# Altium integrated library Xilinx Virtex-E.IntLib: 288 symbols (part 15 of 73)
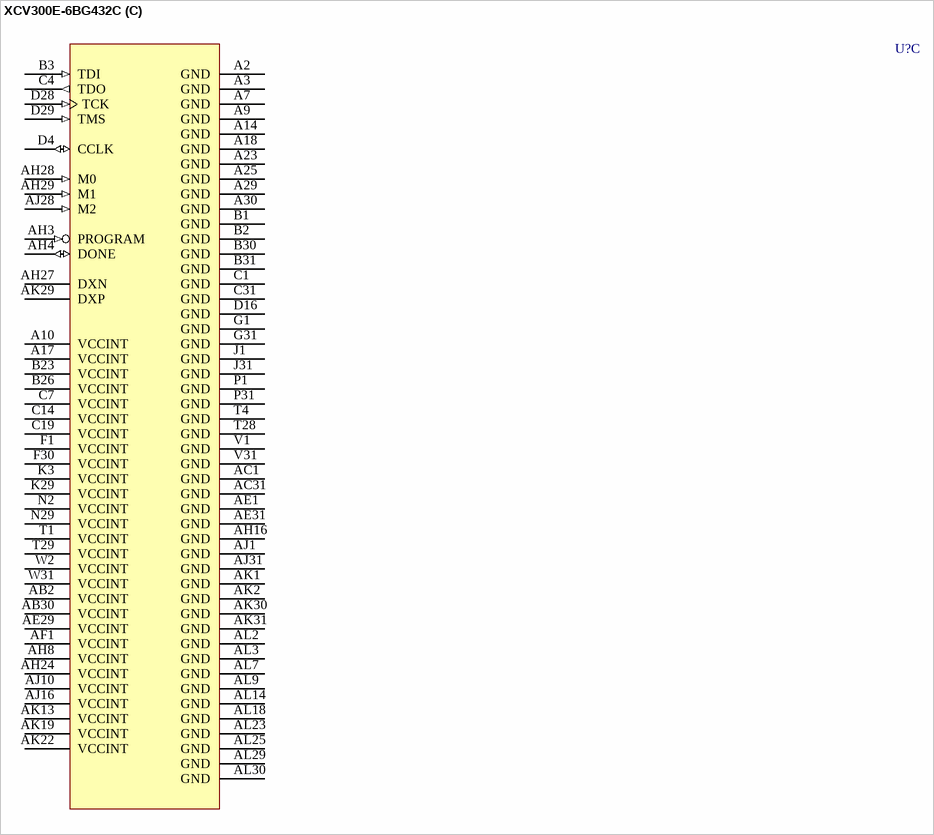
[diagram p407: symbol XCV300E-6BG432C]

## XCV300E-6BG432C
designator U?
Virtex-E 1.8V FPGA, 432-Ball BGA, Commercial Grade; PackageDocument: ver1.1, Apr-2001; Note: Solder pads are defined by the copper, i.e. non-soldermask defined (NSMD); Published: 19-Sep-2001; LatestRevisionDate: 17-Jul-2002; LatestRevisionNote: Re-released for DXP Platform.; DatasheetDocument: Mar-2003; PackageReference: BG432; Publisher: Altium Limited
footprint BG432 (432-Ball Metal Ball Grid Array (BG432))
3D model XCV300E-BG432 (432-Ball Metal Ball Grid Array (BG432))
signal-integrity model XCV300E_BG432 (Virtex-E)
part A pins: A1 VCCO (power), A4 IO_L32N_Y (io), A5 IO_L30N_YY (io), A6 IO_L28P_YY (io), A8 IO_L26N_Y (io), A11 VCCO (power), A12 IO (io), A13 IO_VREF_L19P_YY (io), A15 IO_L17N_Y (io), A16 GCK2 (in), A31 VCCO (power), AA1 VCCO (power), AA2 IO (io), AA3 IO_L58P_YY (io), AA4 VCCO (power), AB1 IO_D5_L58N_YY (io), AB3 IO_D6_L59P_YY (io), AB4 IO_VREF_L59N_YY (io), AC2 IO (io), AC3 IO_L60N_Y (io), AC4 IO_L61P_Y (io), AD1 IO_L60P_Y (io), AD2 IO_L61N_Y (io), AD3 IO_L62P_YY (io), AD4 IO_VREF_L62N_YY (io), AE2 IO (io), AE3 IO_L63N_Y (io), AE4 IO_L64P (io), AF2 IO_L63P_Y (io), AF3 IO_VREF_L65N_Y (io), AF4 IO_L66P_Y (io), AG1 IO_L64N (io), AG2 IO_L65P_Y (io), AG3 IO_L67N (io), AG4 IO_D7_L68P_YY (io), AH1 IO_L66N_Y (io), AH2 IO_L67P (io), AH17 IO_L88P_Y (io), AH18 IO_L90P_YY (io), AH19 IO_L91N_YY (io), AH20 IO (io), AH21 VCCO (power), AH22 IO_L95P_Y (io), AH23 IO_L96N_Y (io), AH25 IO_L99P_Y (io), AH26 IO_L101P_YY (io), AJ2 IO_INIT_L68N_YY (io), AJ3 VCCO (power), AJ17 IO_L87N_Y (io), AJ18 IO_VREF_L89N_YY (io), AJ19 IO (io), AJ20 IO_L92P_YY (io), AJ21 IO_L93P_YY (io), AJ22 IO_L94P_YY (io), AJ23 IO (io), AJ24 IO (io), AJ25 IO_VREF_L97N_YY (io), AJ26 IO_L100P_YY (io), AJ27 IO_L102P_Y (io), AJ29 VCCO (power), AK16 GCK1 (in), AK17 IO_L87P_Y (io), AK18 IO_L88N_Y (io), AK20 IO_L91P_YY (io), AK21 IO_L92N_YY (io), AK23 IO_VREF_L94N_YY (io), AK24 IO_L96P_Y (io), AK25 IO_L97P_YY (io), AK26 IO_L98N_YY (io), AK27 IO_VREF_L100N_YY (io), AK28 IO_L102N_Y (io), AL17 IO_LVDS_DLL_L86N (io), AL19 IO_L89P_YY (io), AL20 IO_L90N_YY (io), AL21 VCCO (power), AL22 IO_L93N_YY (io), AL24 IO_L95N_Y (io), AL26 IO_L98P_YY (io), AL27 IO_L99N_Y (io), AL28 IO_L101N_YY (io), B4 IO_WRITE_L33N_YY (io), B5 IO_L31N_YY (io), B6 IO_L29N_Y (io), B7 IO_VREF_L27P_YY (io), B8 IO_L26P_Y (io), B9 IO (io), B10 IO_L24N_YY (io), B11 IO (io), B12 IO_L21P_YY (io), B13 IO_L20N_YY (io), B14 IO_L19N_YY (io), B15 IO_L17P_Y (io), B16 IO_LVDS_DLL_L16P (io), C5 IO_L32P_Y (io), C6 IO_VREF_L30P_YY (io), C8 IO_L27N_YY (io), C9 IO_L25N_Y (io), C10 IO_VREF_L24P_YY (io), C11 IO_L23P_YY (io), C12 IO_L22P_YY (io), C13 IO_L21N_YY (io), C15 IO_L18N_Y (io), C16 IO (io), C30 IO (io), D5 IO_CS_L33P_YY (io), D6 IO_L31P_YY (io), D7 IO_L29P_Y (io), D8 IO_L28N_YY (io), D9 IO (io), D10 IO_L25P_Y (io), D11 VCCO (power), D12 IO_L23N_YY (io), D13 IO_L22N_YY (io), D14 IO_L20P_YY (io), D15 IO_L18P_Y (io), D30 IO_L135P_Y (io), D31 IO_L135N_Y (io), E28 IO_L136P (io), E29 IO_L136N (io), E30 IO_L133P (io), E31 IO_L133N (io), F28 IO_VREF_L134P_Y (io), F29 IO_L134N_Y (io), F31 IO_VREF_L131P_YY (io), G28 IO_L132P_Y (io), G29 IO_L132N_Y (io), G30 IO_L130P_Y (io), H28 IO_L131N_YY (io), H29 IO (io), H30 IO_L130N_Y (io), H31 IO (io), J28 IO_L129P_Y (io), J29 IO_L129N_Y (io), J30 IO_VREF_L128P_YY (io), K28 IO_L128N_YY (io), K30 IO_L127P_YY (io), K31 IO_L127N_YY (io), L28 VCCO (power), L29 IO (io), L30 IO_L126P_Y (io), L31 VCCO (power), M28 IO_L125P_Y (io), M29 IO_L125N_Y (io), M30 IO_L126N_Y (io), M31 IO (io), N28 IO_L124N_Y (io), N30 IO_VREF_L123P_YY (io), N31 IO_L124P_Y (io), P28 IO_L122P_Y (io), P29 IO_L122N_Y (io), P30 IO_L123N_YY (io), R28 IO (io), R29 IO_L120P_YY (io), R30 IO_L121N_Y (io), R31 IO_L121P_Y (io), T2 IO (io), T31 IO_L120N_YY (io), U1 IO_L53P_Y (io), U2 IO_L52N_Y (io), U3 IO (io), U4 IO_L52P_Y (io), V2 IO_VREF_L54N_YY (io), V3 IO_L53N_Y (io), V4 IO_D4_L54P_YY (io), W1 IO (io), W3 IO_L55P_Y (io), W4 IO_L55N_Y (io), Y1 IO_L56P_Y (io), Y2 IO_L57N_Y (io), Y3 IO_L56N_Y (io), Y4 IO_L57P_Y (io)
part B pins: A19 IO_L13P_YY (io), A20 IO_L12N_YY (io), A21 VCCO (power), A22 IO (io), A24 IO_L8P_YY (io), A26 IO (io), A27 IO_L4P_YY (io), A28 IO_L2P_YY (io), AA28 VCCO (power), AA29 IO_L113P_YY (io), AA30 IO (io), AA31 VCCO (power), AB28 IO_VREF_L112N_YY (io), AB29 IO_L112P_YY (io), AB31 IO_L113N_YY (io), AC28 IO_L111N_Y (io), AC29 IO_L111P_Y (io), AC30 IO (io), AD28 IO_L109P_YY (io), AD29 IO (io), AD30 IO_L110N_Y (io), AD31 IO_L110P_Y (io), AE28 IO_L108N_Y (io), AE30 IO_VREF_L109N_YY (io), AF28 IO_VREF_L106N_Y (io), AF29 IO_L107N (io), AF30 IO_L107P (io), AF31 IO_L108P_Y (io), AG28 IO_L104N (io), AG29 IO_L105N_Y (io), AG30 IO_L105P_Y (io), AG31 IO_L106P_Y (io), AH5 IO_L70P_Y (io), AH6 IO_L71N_YY (io), AH7 IO_L73N_Y (io), AH9 IO_L76P_Y (io), AH10 IO (io), AH11 VCCO (power), AH12 IO_L80P_YY (io), AH13 IO_L82P_YY (io), AH14 IO_L84P_Y (io), AH15 IO_LVDS_DLL_L86P (io), AH30 IO_L103P_YY (io), AH31 IO_L104P (io), AJ4 IO_L69P_YY (io), AJ5 IO_L71P_YY (io), AJ6 IO_L73P_Y (io), AJ7 IO_VREF_L75P_YY (io), AJ8 IO_L76N_Y (io), AJ9 IO_L77N_Y (io), AJ11 IO (io), AJ12 IO_L81P_YY (io), AJ13 IO_L82N_YY (io), AJ14 IO_L84N_Y (io), AJ15 IO_L85N_Y (io), AJ30 IO_L103N_YY (io), AK3 IO_L69N_YY (io), AK4 IO_L70N_Y (io), AK5 IO_L72N_YY (io), AK6 IO_L74N_YY (io), AK7 IO (io), AK8 IO_L77P_Y (io), AK9 IO_L78N_YY (io), AK10 IO_L79P_YY (io), AK11 IO_L80N_YY (io), AK12 IO_L81N_YY (io), AK14 IO_L83N_YY (io), AK15 IO_L85P_Y (io), AL1 VCCO (power), AL4 IO_VREF_L72P_YY (io), AL5 IO_L74P_YY (io), AL6 IO_L75N_YY (io), AL8 IO_VREF_L78P_YY (io), AL10 IO_L79N_YY (io), AL11 VCCO (power), AL12 IO (io), AL13 IO_VREF_L83P_YY (io), AL15 IO (io), AL16 GCK0 (in), AL31 VCCO (power), B17 IO_L15P_Y (io), B18 IO_L14N_Y (io), B19 IO_VREF_L13N_YY (io), B20 IO (io), B21 IO_L11N_YY (io), B22 IO_L9P_YY (io), B24 IO_L7P_Y (io), B25 IO_L6N_Y (io), B27 IO_L3N_Y (io), B28 IO_L1N_YY (io), B29 IO_L0N_Y (io), C2 IO_DIN_D0_L34N_YY (io), C3 VCCO (power), C17 IO_LVDS_DLL_L16N (io), C18 IO_L15N_Y (io), C20 IO_L11P_YY (io), C21 IO_L10N_YY (io), C22 IO_L9N_YY (io), C23 IO (io), C24 IO_L7N_Y (io), C25 IO_L5P_YY (io), C26 IO_L3P_Y (io), C27 IO_L1P_YY (io), C28 IO (io), C29 VCCO (power), D1 IO_L36P_Y (io), D2 IO_L35P (io), D3 IO_DOUT_BUSY_L34P_YY (io), D17 GCK3 (in), D18 IO_L14P_Y (io), D19 IO_L12P_YY (io), D20 IO_L10P_YY (io), D21 VCCO (power), D22 IO_VREF_L8N_YY (io), D23 IO_L6P_Y (io), D24 IO_VREF_L5N_YY (io), D25 IO_L4N_YY (io), D26 IO_VREF_L2N_YY (io), D27 IO_L0P_Y (io), E1 IO_L38P (io), E2 IO_VREF_L37P_Y (io), E3 IO_L36N_Y (io), E4 IO_L35N (io), F2 IO_L39P_Y (io), F3 IO_L38N (io), F4 IO_L37N_Y (io), G2 IO_L40N_YY (io), G3 IO_VREF_L40P_YY (io), G4 IO_L39N_Y (io), H1 IO_L42P_Y (io), H2 IO_L41N_Y (io), H3 IO_L41P_Y (io), H4 IO (io), J2 IO_VREF_L43P_YY (io), J3 IO (io), J4 IO_L42N_Y (io), K1 IO_L44N_YY (io), K2 IO_D2_L44P_YY (io), K4 IO_D1_L43N_YY (io), L1 VCCO (power), L2 IO_L45P_Y (io), L3 IO (io), L4 VCCO (power), M1 IO (io), M2 IO_L46N_Y (io), M3 IO_L46P_Y (io), M4 IO_L45N_Y (io), N1 IO_VREF_L48P_YY (io), N3 IO_L47N_Y (io), N4 IO_L47P_Y (io), P2 IO_L49N_Y (io), P3 IO_L49P_Y (io), P4 IO_D3_L48N_YY (io), R1 IO_L51P_YY (io), R2 IO (io), R3 IO_L50P_Y (io), R4 IO_L50N_Y (io), T3 IO_L51N_YY (io), T30 IO (io), U28 IO_L119N_Y (io), U29 IO_L118P_Y (io), U30 IO_L119P_Y (io), U31 IO (io), V28 IO_VREF_L117N_YY (io), V29 IO_L117P_YY (io), V30 IO_L118N_Y (io), W28 IO (io), W29 IO_L116N_Y (io), W30 IO_L116P_Y (io), Y28 IO_L114N_Y (io), Y29 IO_L114P_Y (io), Y30 IO_L115N_Y (io), Y31 IO_L115P_Y (io)
part C pins: A2 GND (power), A3 GND (power), A7 GND (power), A9 GND (power), A10 VCCINT (power), A14 GND (power), A17 VCCINT (power), A18 GND (power), A23 GND (power), A25 GND (power), A29 GND (power), A30 GND (power), AB2 VCCINT (power), AB30 VCCINT (power), AC1 GND (power), AC31 GND (power), AE1 GND (power), AE29 VCCINT (power), AE31 GND (power), AF1 VCCINT (power), AH3 PROGRAM (in), AH4 DONE (io), AH8 VCCINT (power), AH16 GND (power), AH24 VCCINT (power), AH27 DXN, AH28 M0 (in), AH29 M1 (in), AJ1 GND (power), AJ10 VCCINT (power), AJ16 VCCINT (power), AJ28 M2 (in), AJ31 GND (power), AK1 GND (power), AK2 GND (power), AK13 VCCINT (power), AK19 VCCINT (power), AK22 VCCINT (power), AK29 DXP, AK30 GND (power), AK31 GND (power), AL2 GND (power), AL3 GND (power), AL7 GND (power), AL9 GND (power), AL14 GND (power), AL18 GND (power), AL23 GND (power), AL25 GND (power), AL29 GND (power), AL30 GND (power), B1 GND (power), B2 GND (power), B3 TDI (in), B23 VCCINT (power), B26 VCCINT (power), B30 GND (power), B31 GND (power), C1 GND (power), C4 TDO (out), C7 VCCINT (power), C14 VCCINT (power), C19 VCCINT (power), C31 GND (power), D4 CCLK (io), D16 GND (power), D28 TCK (in), D29 TMS (in), F1 VCCINT (power), F30 VCCINT (power), G1 GND (power), G31 GND (power), J1 GND (power), J31 GND (power), K3 VCCINT (power), K29 VCCINT (power), N2 VCCINT (power), N29 VCCINT (power), P1 GND (power), P31 GND (power), T1 VCCINT (power), T4 GND (power), T28 GND (power), T29 VCCINT (power), V1 GND (power), V31 GND (power), W2 VCCINT (power), W31 VCCINT (power)
part A text: BANK 1; BANK 7; BANK 3; BANK 5
part B text: BANK 0; BANK 6; BANK 2; BANK 4

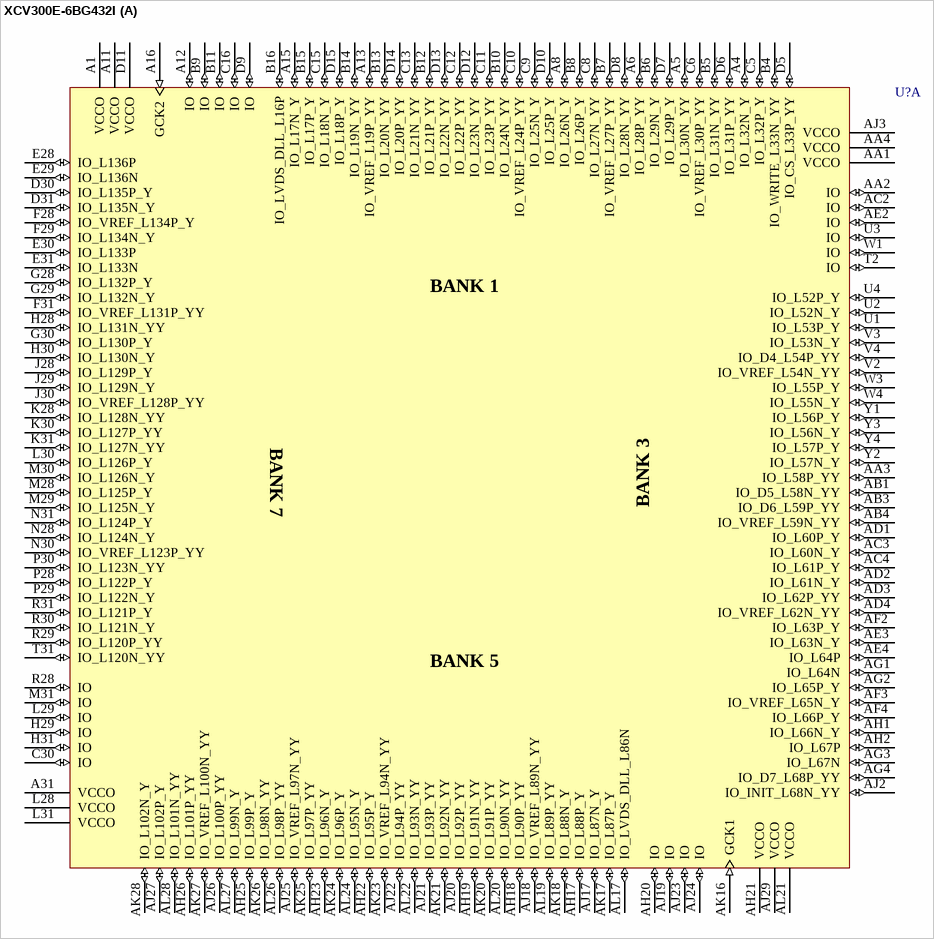
[diagram p82: symbol XCV300E-6BG432I]

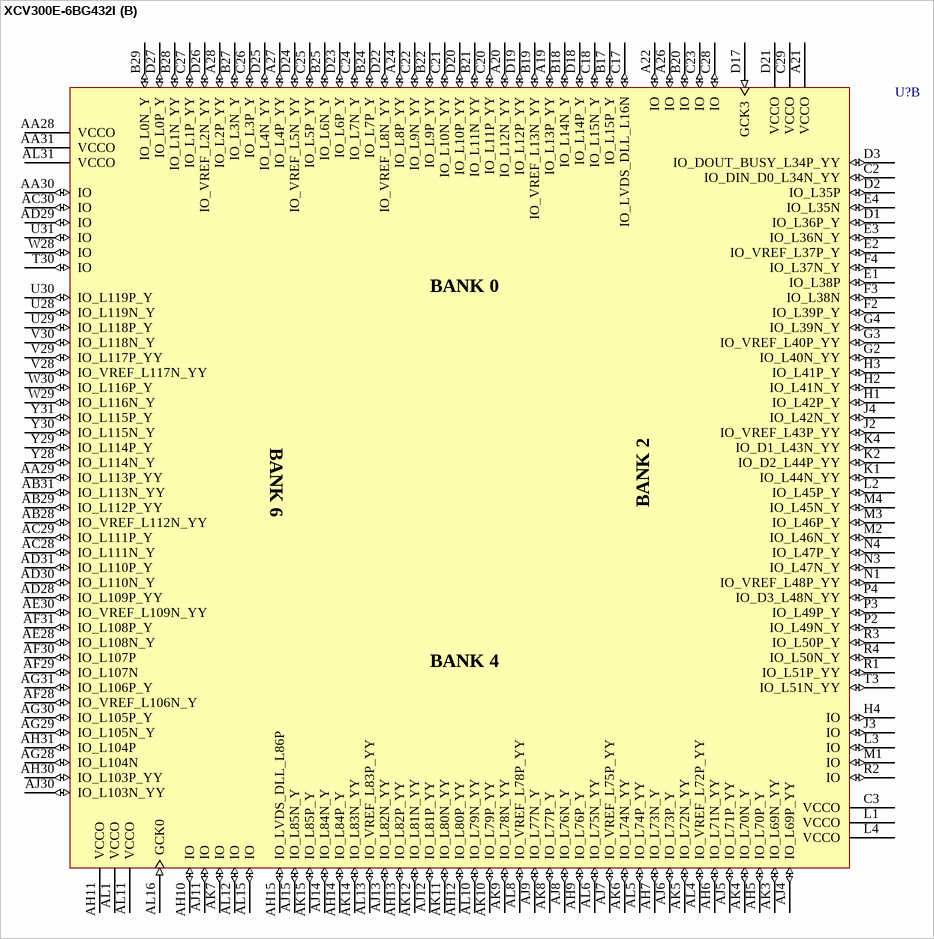
[diagram p83: symbol XCV300E-6BG432I]

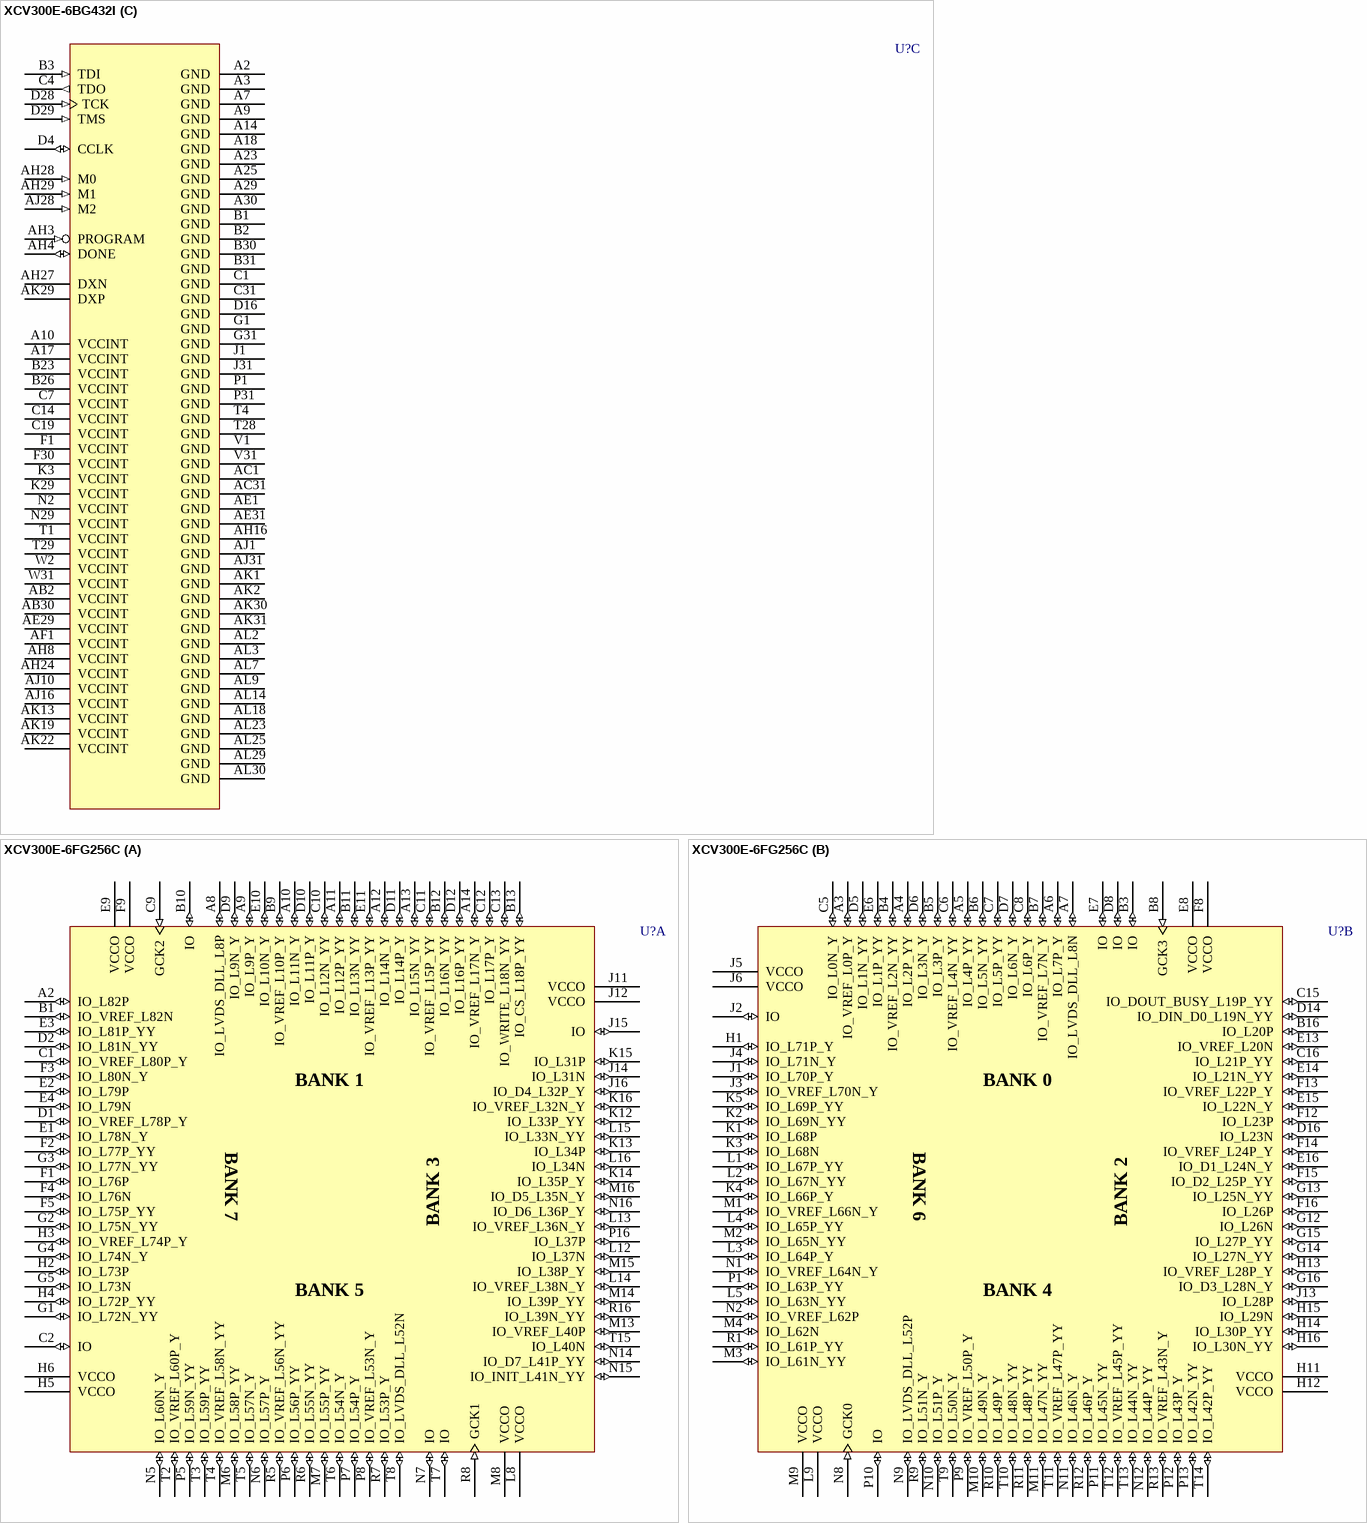
[diagram p84: symbols XCV300E-6BG432I to XCV300E-6FG256C]

## XCV300E-6BG432I
designator U?
Virtex-E 1.8V FPGA, 432-Ball BGA, Industrial Grade; PackageDocument: ver1.1, Apr-2001; Note: Solder pads are defined by the copper, i.e. non-soldermask defined (NSMD); Published: 19-Sep-2001; LatestRevisionDate: 17-Jul-2002; LatestRevisionNote: Re-released for DXP Platform.; DatasheetDocument: Mar-2003; PackageReference: BG432; Publisher: Altium Limited
footprint BG432 (432-Ball Metal Ball Grid Array (BG432))
3D model XCV300E-BG432 (432-Ball Metal Ball Grid Array (BG432))
signal-integrity model XCV300E_BG432 (Virtex-E)
part A pins: A1 VCCO (power), A4 IO_L32N_Y (io), A5 IO_L30N_YY (io), A6 IO_L28P_YY (io), A8 IO_L26N_Y (io), A11 VCCO (power), A12 IO (io), A13 IO_VREF_L19P_YY (io), A15 IO_L17N_Y (io), A16 GCK2 (in), A31 VCCO (power), AA1 VCCO (power), AA2 IO (io), AA3 IO_L58P_YY (io), AA4 VCCO (power), AB1 IO_D5_L58N_YY (io), AB3 IO_D6_L59P_YY (io), AB4 IO_VREF_L59N_YY (io), AC2 IO (io), AC3 IO_L60N_Y (io), AC4 IO_L61P_Y (io), AD1 IO_L60P_Y (io), AD2 IO_L61N_Y (io), AD3 IO_L62P_YY (io), AD4 IO_VREF_L62N_YY (io), AE2 IO (io), AE3 IO_L63N_Y (io), AE4 IO_L64P (io), AF2 IO_L63P_Y (io), AF3 IO_VREF_L65N_Y (io), AF4 IO_L66P_Y (io), AG1 IO_L64N (io), AG2 IO_L65P_Y (io), AG3 IO_L67N (io), AG4 IO_D7_L68P_YY (io), AH1 IO_L66N_Y (io), AH2 IO_L67P (io), AH17 IO_L88P_Y (io), AH18 IO_L90P_YY (io), AH19 IO_L91N_YY (io), AH20 IO (io), AH21 VCCO (power), AH22 IO_L95P_Y (io), AH23 IO_L96N_Y (io), AH25 IO_L99P_Y (io), AH26 IO_L101P_YY (io), AJ2 IO_INIT_L68N_YY (io), AJ3 VCCO (power), AJ17 IO_L87N_Y (io), AJ18 IO_VREF_L89N_YY (io), AJ19 IO (io), AJ20 IO_L92P_YY (io), AJ21 IO_L93P_YY (io), AJ22 IO_L94P_YY (io), AJ23 IO (io), AJ24 IO (io), AJ25 IO_VREF_L97N_YY (io), AJ26 IO_L100P_YY (io), AJ27 IO_L102P_Y (io), AJ29 VCCO (power), AK16 GCK1 (in), AK17 IO_L87P_Y (io), AK18 IO_L88N_Y (io), AK20 IO_L91P_YY (io), AK21 IO_L92N_YY (io), AK23 IO_VREF_L94N_YY (io), AK24 IO_L96P_Y (io), AK25 IO_L97P_YY (io), AK26 IO_L98N_YY (io), AK27 IO_VREF_L100N_YY (io), AK28 IO_L102N_Y (io), AL17 IO_LVDS_DLL_L86N (io), AL19 IO_L89P_YY (io), AL20 IO_L90N_YY (io), AL21 VCCO (power), AL22 IO_L93N_YY (io), AL24 IO_L95N_Y (io), AL26 IO_L98P_YY (io), AL27 IO_L99N_Y (io), AL28 IO_L101N_YY (io), B4 IO_WRITE_L33N_YY (io), B5 IO_L31N_YY (io), B6 IO_L29N_Y (io), B7 IO_VREF_L27P_YY (io), B8 IO_L26P_Y (io), B9 IO (io), B10 IO_L24N_YY (io), B11 IO (io), B12 IO_L21P_YY (io), B13 IO_L20N_YY (io), B14 IO_L19N_YY (io), B15 IO_L17P_Y (io), B16 IO_LVDS_DLL_L16P (io), C5 IO_L32P_Y (io), C6 IO_VREF_L30P_YY (io), C8 IO_L27N_YY (io), C9 IO_L25N_Y (io), C10 IO_VREF_L24P_YY (io), C11 IO_L23P_YY (io), C12 IO_L22P_YY (io), C13 IO_L21N_YY (io), C15 IO_L18N_Y (io), C16 IO (io), C30 IO (io), D5 IO_CS_L33P_YY (io), D6 IO_L31P_YY (io), D7 IO_L29P_Y (io), D8 IO_L28N_YY (io), D9 IO (io), D10 IO_L25P_Y (io), D11 VCCO (power), D12 IO_L23N_YY (io), D13 IO_L22N_YY (io), D14 IO_L20P_YY (io), D15 IO_L18P_Y (io), D30 IO_L135P_Y (io), D31 IO_L135N_Y (io), E28 IO_L136P (io), E29 IO_L136N (io), E30 IO_L133P (io), E31 IO_L133N (io), F28 IO_VREF_L134P_Y (io), F29 IO_L134N_Y (io), F31 IO_VREF_L131P_YY (io), G28 IO_L132P_Y (io), G29 IO_L132N_Y (io), G30 IO_L130P_Y (io), H28 IO_L131N_YY (io), H29 IO (io), H30 IO_L130N_Y (io), H31 IO (io), J28 IO_L129P_Y (io), J29 IO_L129N_Y (io), J30 IO_VREF_L128P_YY (io), K28 IO_L128N_YY (io), K30 IO_L127P_YY (io), K31 IO_L127N_YY (io), L28 VCCO (power), L29 IO (io), L30 IO_L126P_Y (io), L31 VCCO (power), M28 IO_L125P_Y (io), M29 IO_L125N_Y (io), M30 IO_L126N_Y (io), M31 IO (io), N28 IO_L124N_Y (io), N30 IO_VREF_L123P_YY (io), N31 IO_L124P_Y (io), P28 IO_L122P_Y (io), P29 IO_L122N_Y (io), P30 IO_L123N_YY (io), R28 IO (io), R29 IO_L120P_YY (io), R30 IO_L121N_Y (io), R31 IO_L121P_Y (io), T2 IO (io), T31 IO_L120N_YY (io), U1 IO_L53P_Y (io), U2 IO_L52N_Y (io), U3 IO (io), U4 IO_L52P_Y (io), V2 IO_VREF_L54N_YY (io), V3 IO_L53N_Y (io), V4 IO_D4_L54P_YY (io), W1 IO (io), W3 IO_L55P_Y (io), W4 IO_L55N_Y (io), Y1 IO_L56P_Y (io), Y2 IO_L57N_Y (io), Y3 IO_L56N_Y (io), Y4 IO_L57P_Y (io)
part B pins: A19 IO_L13P_YY (io), A20 IO_L12N_YY (io), A21 VCCO (power), A22 IO (io), A24 IO_L8P_YY (io), A26 IO (io), A27 IO_L4P_YY (io), A28 IO_L2P_YY (io), AA28 VCCO (power), AA29 IO_L113P_YY (io), AA30 IO (io), AA31 VCCO (power), AB28 IO_VREF_L112N_YY (io), AB29 IO_L112P_YY (io), AB31 IO_L113N_YY (io), AC28 IO_L111N_Y (io), AC29 IO_L111P_Y (io), AC30 IO (io), AD28 IO_L109P_YY (io), AD29 IO (io), AD30 IO_L110N_Y (io), AD31 IO_L110P_Y (io), AE28 IO_L108N_Y (io), AE30 IO_VREF_L109N_YY (io), AF28 IO_VREF_L106N_Y (io), AF29 IO_L107N (io), AF30 IO_L107P (io), AF31 IO_L108P_Y (io), AG28 IO_L104N (io), AG29 IO_L105N_Y (io), AG30 IO_L105P_Y (io), AG31 IO_L106P_Y (io), AH5 IO_L70P_Y (io), AH6 IO_L71N_YY (io), AH7 IO_L73N_Y (io), AH9 IO_L76P_Y (io), AH10 IO (io), AH11 VCCO (power), AH12 IO_L80P_YY (io), AH13 IO_L82P_YY (io), AH14 IO_L84P_Y (io), AH15 IO_LVDS_DLL_L86P (io), AH30 IO_L103P_YY (io), AH31 IO_L104P (io), AJ4 IO_L69P_YY (io), AJ5 IO_L71P_YY (io), AJ6 IO_L73P_Y (io), AJ7 IO_VREF_L75P_YY (io), AJ8 IO_L76N_Y (io), AJ9 IO_L77N_Y (io), AJ11 IO (io), AJ12 IO_L81P_YY (io), AJ13 IO_L82N_YY (io), AJ14 IO_L84N_Y (io), AJ15 IO_L85N_Y (io), AJ30 IO_L103N_YY (io), AK3 IO_L69N_YY (io), AK4 IO_L70N_Y (io), AK5 IO_L72N_YY (io), AK6 IO_L74N_YY (io), AK7 IO (io), AK8 IO_L77P_Y (io), AK9 IO_L78N_YY (io), AK10 IO_L79P_YY (io), AK11 IO_L80N_YY (io), AK12 IO_L81N_YY (io), AK14 IO_L83N_YY (io), AK15 IO_L85P_Y (io), AL1 VCCO (power), AL4 IO_VREF_L72P_YY (io), AL5 IO_L74P_YY (io), AL6 IO_L75N_YY (io), AL8 IO_VREF_L78P_YY (io), AL10 IO_L79N_YY (io), AL11 VCCO (power), AL12 IO (io), AL13 IO_VREF_L83P_YY (io), AL15 IO (io), AL16 GCK0 (in), AL31 VCCO (power), B17 IO_L15P_Y (io), B18 IO_L14N_Y (io), B19 IO_VREF_L13N_YY (io), B20 IO (io), B21 IO_L11N_YY (io), B22 IO_L9P_YY (io), B24 IO_L7P_Y (io), B25 IO_L6N_Y (io), B27 IO_L3N_Y (io), B28 IO_L1N_YY (io), B29 IO_L0N_Y (io), C2 IO_DIN_D0_L34N_YY (io), C3 VCCO (power), C17 IO_LVDS_DLL_L16N (io), C18 IO_L15N_Y (io), C20 IO_L11P_YY (io), C21 IO_L10N_YY (io), C22 IO_L9N_YY (io), C23 IO (io), C24 IO_L7N_Y (io), C25 IO_L5P_YY (io), C26 IO_L3P_Y (io), C27 IO_L1P_YY (io), C28 IO (io), C29 VCCO (power), D1 IO_L36P_Y (io), D2 IO_L35P (io), D3 IO_DOUT_BUSY_L34P_YY (io), D17 GCK3 (in), D18 IO_L14P_Y (io), D19 IO_L12P_YY (io), D20 IO_L10P_YY (io), D21 VCCO (power), D22 IO_VREF_L8N_YY (io), D23 IO_L6P_Y (io), D24 IO_VREF_L5N_YY (io), D25 IO_L4N_YY (io), D26 IO_VREF_L2N_YY (io), D27 IO_L0P_Y (io), E1 IO_L38P (io), E2 IO_VREF_L37P_Y (io), E3 IO_L36N_Y (io), E4 IO_L35N (io), F2 IO_L39P_Y (io), F3 IO_L38N (io), F4 IO_L37N_Y (io), G2 IO_L40N_YY (io), G3 IO_VREF_L40P_YY (io), G4 IO_L39N_Y (io), H1 IO_L42P_Y (io), H2 IO_L41N_Y (io), H3 IO_L41P_Y (io), H4 IO (io), J2 IO_VREF_L43P_YY (io), J3 IO (io), J4 IO_L42N_Y (io), K1 IO_L44N_YY (io), K2 IO_D2_L44P_YY (io), K4 IO_D1_L43N_YY (io), L1 VCCO (power), L2 IO_L45P_Y (io), L3 IO (io), L4 VCCO (power), M1 IO (io), M2 IO_L46N_Y (io), M3 IO_L46P_Y (io), M4 IO_L45N_Y (io), N1 IO_VREF_L48P_YY (io), N3 IO_L47N_Y (io), N4 IO_L47P_Y (io), P2 IO_L49N_Y (io), P3 IO_L49P_Y (io), P4 IO_D3_L48N_YY (io), R1 IO_L51P_YY (io), R2 IO (io), R3 IO_L50P_Y (io), R4 IO_L50N_Y (io), T3 IO_L51N_YY (io), T30 IO (io), U28 IO_L119N_Y (io), U29 IO_L118P_Y (io), U30 IO_L119P_Y (io), U31 IO (io), V28 IO_VREF_L117N_YY (io), V29 IO_L117P_YY (io), V30 IO_L118N_Y (io), W28 IO (io), W29 IO_L116N_Y (io), W30 IO_L116P_Y (io), Y28 IO_L114N_Y (io), Y29 IO_L114P_Y (io), Y30 IO_L115N_Y (io), Y31 IO_L115P_Y (io)
part C pins: A2 GND (power), A3 GND (power), A7 GND (power), A9 GND (power), A10 VCCINT (power), A14 GND (power), A17 VCCINT (power), A18 GND (power), A23 GND (power), A25 GND (power), A29 GND (power), A30 GND (power), AB2 VCCINT (power), AB30 VCCINT (power), AC1 GND (power), AC31 GND (power), AE1 GND (power), AE29 VCCINT (power), AE31 GND (power), AF1 VCCINT (power), AH3 PROGRAM (in), AH4 DONE (io), AH8 VCCINT (power), AH16 GND (power), AH24 VCCINT (power), AH27 DXN, AH28 M0 (in), AH29 M1 (in), AJ1 GND (power), AJ10 VCCINT (power), AJ16 VCCINT (power), AJ28 M2 (in), AJ31 GND (power), AK1 GND (power), AK2 GND (power), AK13 VCCINT (power), AK19 VCCINT (power), AK22 VCCINT (power), AK29 DXP, AK30 GND (power), AK31 GND (power), AL2 GND (power), AL3 GND (power), AL7 GND (power), AL9 GND (power), AL14 GND (power), AL18 GND (power), AL23 GND (power), AL25 GND (power), AL29 GND (power), AL30 GND (power), B1 GND (power), B2 GND (power), B3 TDI (in), B23 VCCINT (power), B26 VCCINT (power), B30 GND (power), B31 GND (power), C1 GND (power), C4 TDO (out), C7 VCCINT (power), C14 VCCINT (power), C19 VCCINT (power), C31 GND (power), D4 CCLK (io), D16 GND (power), D28 TCK (in), D29 TMS (in), F1 VCCINT (power), F30 VCCINT (power), G1 GND (power), G31 GND (power), J1 GND (power), J31 GND (power), K3 VCCINT (power), K29 VCCINT (power), N2 VCCINT (power), N29 VCCINT (power), P1 GND (power), P31 GND (power), T1 VCCINT (power), T4 GND (power), T28 GND (power), T29 VCCINT (power), V1 GND (power), V31 GND (power), W2 VCCINT (power), W31 VCCINT (power)
part A text: BANK 1; BANK 7; BANK 3; BANK 5
part B text: BANK 0; BANK 6; BANK 2; BANK 4

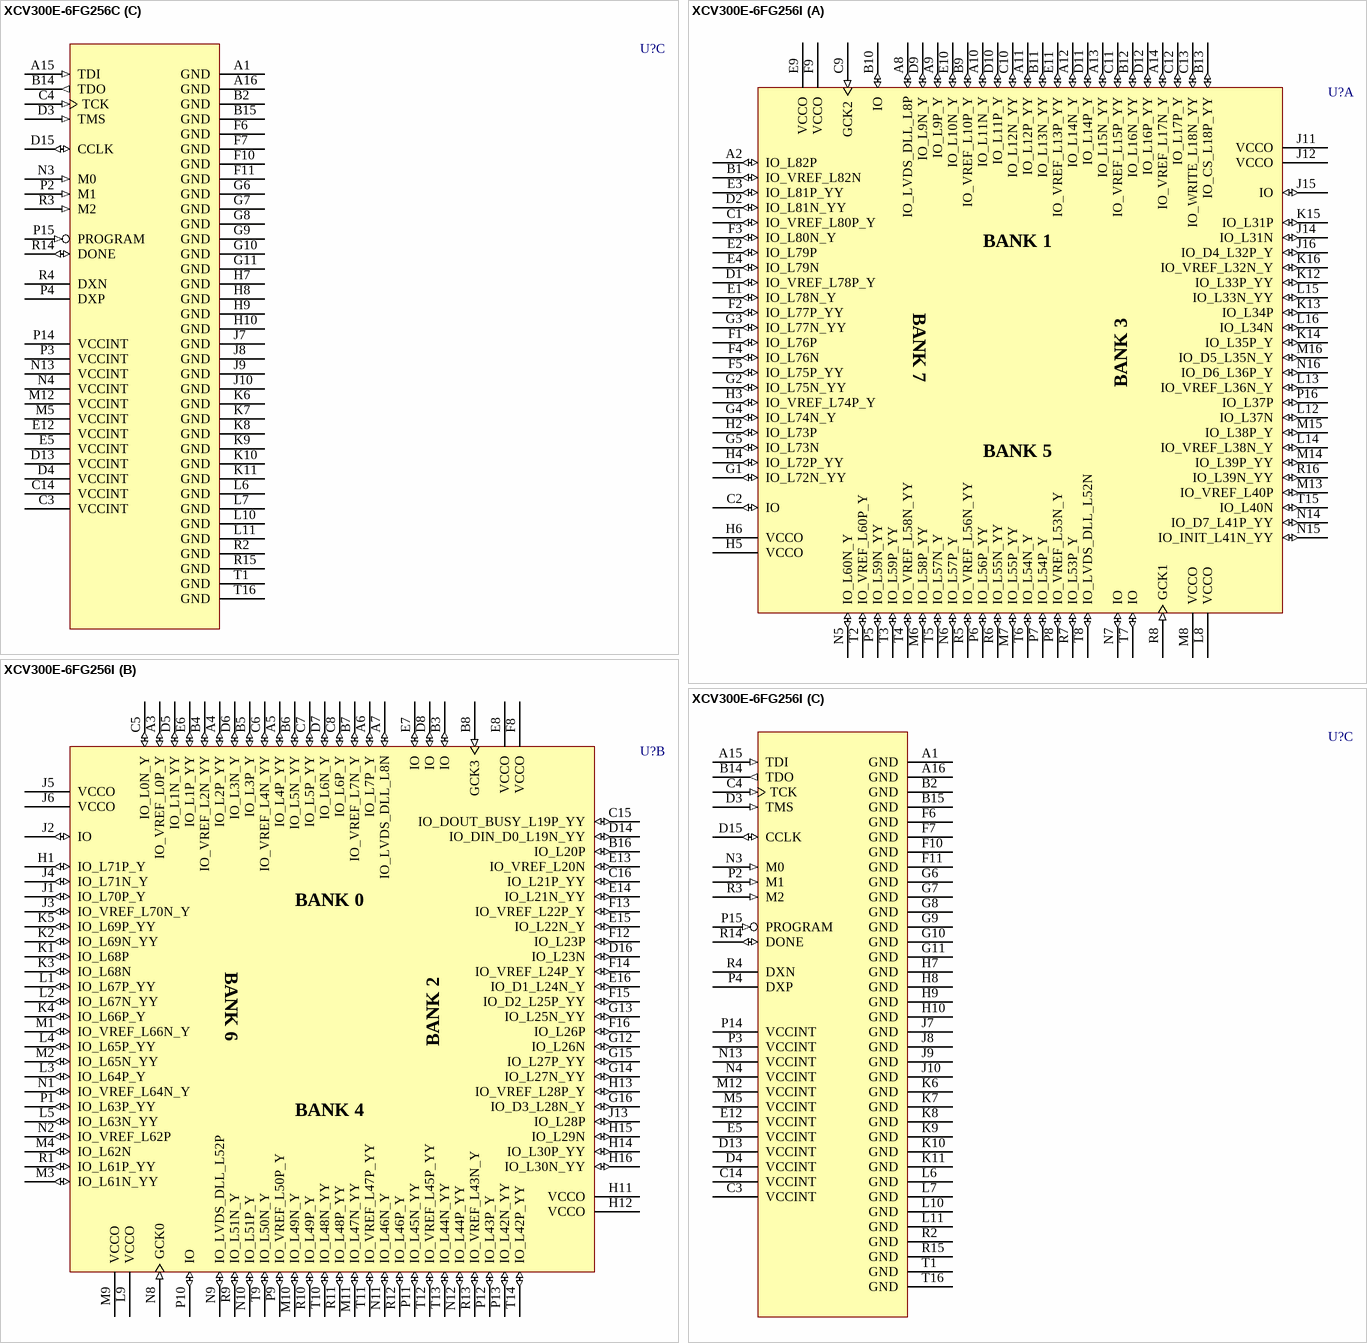
[diagram p85: symbols XCV300E-6FG256C to XCV300E-6FG256I]

## XCV300E-6FG256C
designator U?
Virtex-E 1.8V FPGA, 256-Ball FBGA, Commercial Grade; PackageDocument: ver1.1, Apr-2001; Note: Solder pads are defined by the copper, i.e. non-soldermask defined (NSMD); Published: 19-Sep-2001; LatestRevisionDate: 17-Jul-2002; LatestRevisionNote: Re-released for DXP Platform.; DatasheetDocument: Mar-2003; PackageReference: FG256; Publisher: Altium Limited; Code_JEDEC: MO-151-AAF-1; Code_IPC: PBGA 17X17 FE256
footprint FG256 (256-Ball Fine Pitch Ball Grid Array (FG256))
3D model XCV300E-FG256 (256-Ball Fine Pitch Ball Grid Array (FG256))
signal-integrity model XCV300E_FG256 (Virtex-E)
part A pins: A2 IO_L82P (io), A8 IO_LVDS_DLL_L8P (io), A9 IO_L9P_Y (io), A10 IO_L11N_Y (io), A11 IO_L12P_YY (io), A12 IO_L14N_Y (io), A13 IO_L15N_YY (io), A14 IO_VREF_L17N_Y (io), B1 IO_VREF_L82N (io), B9 IO_VREF_L10P_Y (io), B10 IO (io), B11 IO_L13N_YY (io), B12 IO_L16N_YY (io), B13 IO_CS_L18P_YY (io), C1 IO_VREF_L80P_Y (io), C2 IO (io), C9 GCK2 (in), C10 IO_L12N_YY (io), C11 IO_VREF_L15P_YY (io), C12 IO_L17P_Y (io), C13 IO_WRITE_L18N_YY (io), D1 IO_VREF_L78P_Y (io), D2 IO_L81N_YY (io), D9 IO_L9N_Y (io), D10 IO_L11P_Y (io), D11 IO_L14P_Y (io), D12 IO_L16P_YY (io), E1 IO_L78N_Y (io), E2 IO_L79P (io), E3 IO_L81P_YY (io), E4 IO_L79N (io), E9 VCCO (power), E10 IO_L10N_Y (io), E11 IO_VREF_L13P_YY (io), F1 IO_L76P (io), F2 IO_L77P_YY (io), F3 IO_L80N_Y (io), F4 IO_L76N (io), F5 IO_L75P_YY (io), F9 VCCO (power), G1 IO_L72N_YY (io), G2 IO_L75N_YY (io), G3 IO_L77N_YY (io), G4 IO_L74N_Y (io), G5 IO_L73N (io), H2 IO_L73P (io), H3 IO_VREF_L74P_Y (io), H4 IO_L72P_YY (io), H5 VCCO (power), H6 VCCO (power), J11 VCCO (power), J12 VCCO (power), J14 IO_L31N (io), J15 IO (io), J16 IO_D4_L32P_Y (io), K12 IO_L33P_YY (io), K13 IO_L34P (io), K14 IO_L35P_Y (io), K15 IO_L31P (io), K16 IO_VREF_L32N_Y (io), L8 VCCO (power), L12 IO_L37N (io), L13 IO_VREF_L36N_Y (io), L14 IO_VREF_L38N_Y (io), L15 IO_L33N_YY (io), L16 IO_L34N (io), M6 IO_L58P_YY (io), M7 IO_L55P_YY (io), M8 VCCO (power), M13 IO_VREF_L40P (io), M14 IO_L39P_YY (io), M15 IO_L38P_Y (io), M16 IO_D5_L35N_Y (io), N5 IO_L60N_Y (io), N6 IO_L57P_Y (io), N7 IO (io), N14 IO_D7_L41P_YY (io), N15 IO_INIT_L41N_YY (io), N16 IO_D6_L36P_Y (io), P5 IO_L59N_YY (io), P6 IO_L56P_YY (io), P7 IO_L54P_Y (io), P8 IO_VREF_L53N_Y (io), P16 IO_L37P (io), R5 IO_VREF_L56N_YY (io), R6 IO_L55N_YY (io), R7 IO_L53P_Y (io), R8 GCK1 (in), R16 IO_L39N_YY (io), T2 IO_VREF_L60P_Y (io), T3 IO_L59P_YY (io), T4 IO_VREF_L58N_YY (io), T5 IO_L57N_Y (io), T6 IO_L54N_Y (io), T7 IO (io), T8 IO_LVDS_DLL_L52N (io), T15 IO_L40N (io)
part B pins: A3 IO_VREF_L0P_Y (io), A4 IO_L2P_YY (io), A5 IO_L4P_YY (io), A6 IO_L7P_Y (io), A7 IO_LVDS_DLL_L8N (io), B3 IO (io), B4 IO_VREF_L2N_YY (io), B5 IO_L3P_Y (io), B6 IO_L5N_YY (io), B7 IO_VREF_L7N_Y (io), B8 GCK3 (in), B16 IO_L20P (io), C5 IO_L0N_Y (io), C6 IO_VREF_L4N_YY (io), C7 IO_L5P_YY (io), C8 IO_L6P_Y (io), C15 IO_DOUT_BUSY_L19P_YY (io), C16 IO_L21P_YY (io), D5 IO_L1N_YY (io), D6 IO_L3N_Y (io), D7 IO_L6N_Y (io), D8 IO (io), D14 IO_DIN_D0_L19N_YY (io), D16 IO_L23N (io), E6 IO_L1P_YY (io), E7 IO (io), E8 VCCO (power), E13 IO_VREF_L20N (io), E14 IO_L21N_YY (io), E15 IO_L22N_Y (io), E16 IO_D1_L24N_Y (io), F8 VCCO (power), F12 IO_L23P (io), F13 IO_VREF_L22P_Y (io), F14 IO_VREF_L24P_Y (io), F15 IO_D2_L25P_YY (io), F16 IO_L26P (io), G12 IO_L26N (io), G13 IO_L25N_YY (io), G14 IO_L27N_YY (io), G15 IO_L27P_YY (io), G16 IO_D3_L28N_Y (io), H1 IO_L71P_Y (io), H11 VCCO (power), H12 VCCO (power), H13 IO_VREF_L28P_Y (io), H14 IO_L30P_YY (io), H15 IO_L29N (io), H16 IO_L30N_YY (io), J1 IO_L70P_Y (io), J2 IO (io), J3 IO_VREF_L70N_Y (io), J4 IO_L71N_Y (io), J5 VCCO (power), J6 VCCO (power), J13 IO_L28P (io), K1 IO_L68P (io), K2 IO_L69N_YY (io), K3 IO_L68N (io), K4 IO_L66P_Y (io), K5 IO_L69P_YY (io), L1 IO_L67P_YY (io), L2 IO_L67N_YY (io), L3 IO_L64P_Y (io), L4 IO_L65P_YY (io), L5 IO_L63N_YY (io), L9 VCCO (power), M1 IO_VREF_L66N_Y (io), M2 IO_L65N_YY (io), M3 IO_L61N_YY (io), M4 IO_L62N (io), M9 VCCO (power), M10 IO_L49N_Y (io), M11 IO_L47N_YY (io), N1 IO_VREF_L64N_Y (io), N2 IO_VREF_L62P (io), N8 GCK0 (in), N9 IO_LVDS_DLL_L52P (io), N10 IO_L51P_Y (io), N11 IO_L46N_Y (io), N12 IO_L44P_YY (io), P1 IO_L63P_YY (io), P9 IO_VREF_L50P_Y (io), P10 IO (io), P11 IO_L45N_YY (io), P12 IO_L43P_Y (io), P13 IO_L42N_YY (io), R1 IO_L61P_YY (io), R9 IO_L51N_Y (io), R10 IO_L49P_Y (io), R11 IO_L48P_YY (io), R12 IO_L46P_Y (io), R13 IO_VREF_L43N_Y (io), T9 IO_L50N_Y (io), T10 IO_L48N_YY (io), T11 IO_VREF_L47P_YY (io), T12 IO_VREF_L45P_YY (io), T13 IO_L44N_YY (io), T14 IO_L42P_YY (io)
part C pins: A1 GND (power), A15 TDI (in), A16 GND (power), B2 GND (power), B14 TDO (out), B15 GND (power), C3 VCCINT (power), C4 TCK (in), C14 VCCINT (power), D3 TMS (in), D4 VCCINT (power), D13 VCCINT (power), D15 CCLK (io), E5 VCCINT (power), E12 VCCINT (power), F6 GND (power), F7 GND (power), F10 GND (power), F11 GND (power), G6 GND (power), G7 GND (power), G8 GND (power), G9 GND (power), G10 GND (power), G11 GND (power), H7 GND (power), H8 GND (power), H9 GND (power), H10 GND (power), J7 GND (power), J8 GND (power), J9 GND (power), J10 GND (power), K6 GND (power), K7 GND (power), K8 GND (power), K9 GND (power), K10 GND (power), K11 GND (power), L6 GND (power), L7 GND (power), L10 GND (power), L11 GND (power), M5 VCCINT (power), M12 VCCINT (power), N3 M0 (in), N4 VCCINT (power), N13 VCCINT (power), P2 M1 (in), P3 VCCINT (power), P4 DXP, P14 VCCINT (power), P15 PROGRAM (in), R2 GND (power), R3 M2 (in), R4 DXN, R14 DONE (io), R15 GND (power), T1 GND (power), T16 GND (power)
part A text: BANK 1; BANK 7; BANK 3; BANK 5
part B text: BANK 0; BANK 6; BANK 2; BANK 4

## XCV300E-6FG256I
designator U?
Virtex-E 1.8V FPGA, 256-Ball FBGA, Industrial Grade; PackageDocument: ver1.1, Apr-2001; Note: Solder pads are defined by the copper, i.e. non-soldermask defined (NSMD); Published: 19-Sep-2001; LatestRevisionDate: 17-Jul-2002; LatestRevisionNote: Re-released for DXP Platform.; DatasheetDocument: Mar-2003; PackageReference: FG256; Publisher: Altium Limited; Code_JEDEC: MO-151-AAF-1; Code_IPC: PBGA 17X17 FE256
footprint FG256 (256-Ball Fine Pitch Ball Grid Array (FG256))
3D model XCV300E-FG256 (256-Ball Fine Pitch Ball Grid Array (FG256))
signal-integrity model XCV300E_FG256 (Virtex-E)
part A pins: A2 IO_L82P (io), A8 IO_LVDS_DLL_L8P (io), A9 IO_L9P_Y (io), A10 IO_L11N_Y (io), A11 IO_L12P_YY (io), A12 IO_L14N_Y (io), A13 IO_L15N_YY (io), A14 IO_VREF_L17N_Y (io), B1 IO_VREF_L82N (io), B9 IO_VREF_L10P_Y (io), B10 IO (io), B11 IO_L13N_YY (io), B12 IO_L16N_YY (io), B13 IO_CS_L18P_YY (io), C1 IO_VREF_L80P_Y (io), C2 IO (io), C9 GCK2 (in), C10 IO_L12N_YY (io), C11 IO_VREF_L15P_YY (io), C12 IO_L17P_Y (io), C13 IO_WRITE_L18N_YY (io), D1 IO_VREF_L78P_Y (io), D2 IO_L81N_YY (io), D9 IO_L9N_Y (io), D10 IO_L11P_Y (io), D11 IO_L14P_Y (io), D12 IO_L16P_YY (io), E1 IO_L78N_Y (io), E2 IO_L79P (io), E3 IO_L81P_YY (io), E4 IO_L79N (io), E9 VCCO (power), E10 IO_L10N_Y (io), E11 IO_VREF_L13P_YY (io), F1 IO_L76P (io), F2 IO_L77P_YY (io), F3 IO_L80N_Y (io), F4 IO_L76N (io), F5 IO_L75P_YY (io), F9 VCCO (power), G1 IO_L72N_YY (io), G2 IO_L75N_YY (io), G3 IO_L77N_YY (io), G4 IO_L74N_Y (io), G5 IO_L73N (io), H2 IO_L73P (io), H3 IO_VREF_L74P_Y (io), H4 IO_L72P_YY (io), H5 VCCO (power), H6 VCCO (power), J11 VCCO (power), J12 VCCO (power), J14 IO_L31N (io), J15 IO (io), J16 IO_D4_L32P_Y (io), K12 IO_L33P_YY (io), K13 IO_L34P (io), K14 IO_L35P_Y (io), K15 IO_L31P (io), K16 IO_VREF_L32N_Y (io), L8 VCCO (power), L12 IO_L37N (io), L13 IO_VREF_L36N_Y (io), L14 IO_VREF_L38N_Y (io), L15 IO_L33N_YY (io), L16 IO_L34N (io), M6 IO_L58P_YY (io), M7 IO_L55P_YY (io), M8 VCCO (power), M13 IO_VREF_L40P (io), M14 IO_L39P_YY (io), M15 IO_L38P_Y (io), M16 IO_D5_L35N_Y (io), N5 IO_L60N_Y (io), N6 IO_L57P_Y (io), N7 IO (io), N14 IO_D7_L41P_YY (io), N15 IO_INIT_L41N_YY (io), N16 IO_D6_L36P_Y (io), P5 IO_L59N_YY (io), P6 IO_L56P_YY (io), P7 IO_L54P_Y (io), P8 IO_VREF_L53N_Y (io), P16 IO_L37P (io), R5 IO_VREF_L56N_YY (io), R6 IO_L55N_YY (io), R7 IO_L53P_Y (io), R8 GCK1 (in), R16 IO_L39N_YY (io), T2 IO_VREF_L60P_Y (io), T3 IO_L59P_YY (io), T4 IO_VREF_L58N_YY (io), T5 IO_L57N_Y (io), T6 IO_L54N_Y (io), T7 IO (io), T8 IO_LVDS_DLL_L52N (io), T15 IO_L40N (io)
part B pins: A3 IO_VREF_L0P_Y (io), A4 IO_L2P_YY (io), A5 IO_L4P_YY (io), A6 IO_L7P_Y (io), A7 IO_LVDS_DLL_L8N (io), B3 IO (io), B4 IO_VREF_L2N_YY (io), B5 IO_L3P_Y (io), B6 IO_L5N_YY (io), B7 IO_VREF_L7N_Y (io), B8 GCK3 (in), B16 IO_L20P (io), C5 IO_L0N_Y (io), C6 IO_VREF_L4N_YY (io), C7 IO_L5P_YY (io), C8 IO_L6P_Y (io), C15 IO_DOUT_BUSY_L19P_YY (io), C16 IO_L21P_YY (io), D5 IO_L1N_YY (io), D6 IO_L3N_Y (io), D7 IO_L6N_Y (io), D8 IO (io), D14 IO_DIN_D0_L19N_YY (io), D16 IO_L23N (io), E6 IO_L1P_YY (io), E7 IO (io), E8 VCCO (power), E13 IO_VREF_L20N (io), E14 IO_L21N_YY (io), E15 IO_L22N_Y (io), E16 IO_D1_L24N_Y (io), F8 VCCO (power), F12 IO_L23P (io), F13 IO_VREF_L22P_Y (io), F14 IO_VREF_L24P_Y (io), F15 IO_D2_L25P_YY (io), F16 IO_L26P (io), G12 IO_L26N (io), G13 IO_L25N_YY (io), G14 IO_L27N_YY (io), G15 IO_L27P_YY (io), G16 IO_D3_L28N_Y (io), H1 IO_L71P_Y (io), H11 VCCO (power), H12 VCCO (power), H13 IO_VREF_L28P_Y (io), H14 IO_L30P_YY (io), H15 IO_L29N (io), H16 IO_L30N_YY (io), J1 IO_L70P_Y (io), J2 IO (io), J3 IO_VREF_L70N_Y (io), J4 IO_L71N_Y (io), J5 VCCO (power), J6 VCCO (power), J13 IO_L28P (io), K1 IO_L68P (io), K2 IO_L69N_YY (io), K3 IO_L68N (io), K4 IO_L66P_Y (io), K5 IO_L69P_YY (io), L1 IO_L67P_YY (io), L2 IO_L67N_YY (io), L3 IO_L64P_Y (io), L4 IO_L65P_YY (io), L5 IO_L63N_YY (io), L9 VCCO (power), M1 IO_VREF_L66N_Y (io), M2 IO_L65N_YY (io), M3 IO_L61N_YY (io), M4 IO_L62N (io), M9 VCCO (power), M10 IO_L49N_Y (io), M11 IO_L47N_YY (io), N1 IO_VREF_L64N_Y (io), N2 IO_VREF_L62P (io), N8 GCK0 (in), N9 IO_LVDS_DLL_L52P (io), N10 IO_L51P_Y (io), N11 IO_L46N_Y (io), N12 IO_L44P_YY (io), P1 IO_L63P_YY (io), P9 IO_VREF_L50P_Y (io), P10 IO (io), P11 IO_L45N_YY (io), P12 IO_L43P_Y (io), P13 IO_L42N_YY (io), R1 IO_L61P_YY (io), R9 IO_L51N_Y (io), R10 IO_L49P_Y (io), R11 IO_L48P_YY (io), R12 IO_L46P_Y (io), R13 IO_VREF_L43N_Y (io), T9 IO_L50N_Y (io), T10 IO_L48N_YY (io), T11 IO_VREF_L47P_YY (io), T12 IO_VREF_L45P_YY (io), T13 IO_L44N_YY (io), T14 IO_L42P_YY (io)
part C pins: A1 GND (power), A15 TDI (in), A16 GND (power), B2 GND (power), B14 TDO (out), B15 GND (power), C3 VCCINT (power), C4 TCK (in), C14 VCCINT (power), D3 TMS (in), D4 VCCINT (power), D13 VCCINT (power), D15 CCLK (io), E5 VCCINT (power), E12 VCCINT (power), F6 GND (power), F7 GND (power), F10 GND (power), F11 GND (power), G6 GND (power), G7 GND (power), G8 GND (power), G9 GND (power), G10 GND (power), G11 GND (power), H7 GND (power), H8 GND (power), H9 GND (power), H10 GND (power), J7 GND (power), J8 GND (power), J9 GND (power), J10 GND (power), K6 GND (power), K7 GND (power), K8 GND (power), K9 GND (power), K10 GND (power), K11 GND (power), L6 GND (power), L7 GND (power), L10 GND (power), L11 GND (power), M5 VCCINT (power), M12 VCCINT (power), N3 M0 (in), N4 VCCINT (power), N13 VCCINT (power), P2 M1 (in), P3 VCCINT (power), P4 DXP, P14 VCCINT (power), P15 PROGRAM (in), R2 GND (power), R3 M2 (in), R4 DXN, R14 DONE (io), R15 GND (power), T1 GND (power), T16 GND (power)
part A text: BANK 1; BANK 7; BANK 3; BANK 5
part B text: BANK 0; BANK 6; BANK 2; BANK 4

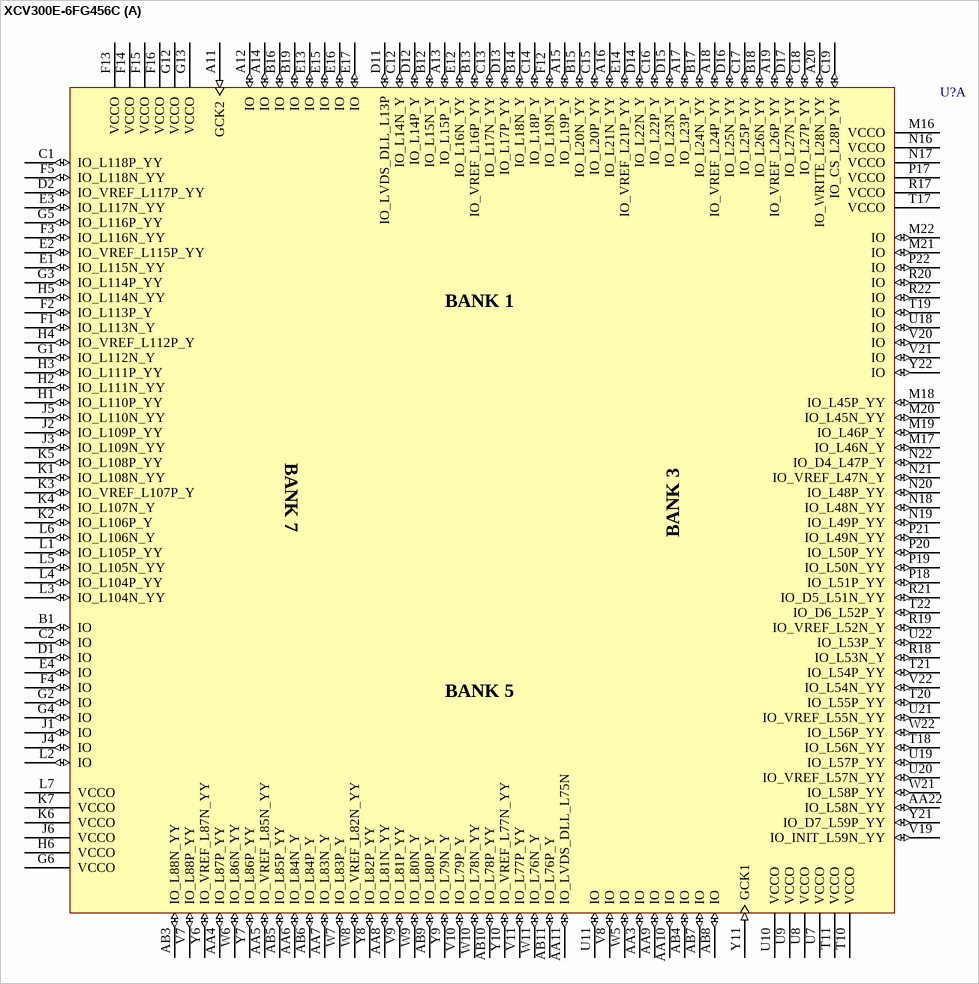
[diagram p86: symbol XCV300E-6FG456C]

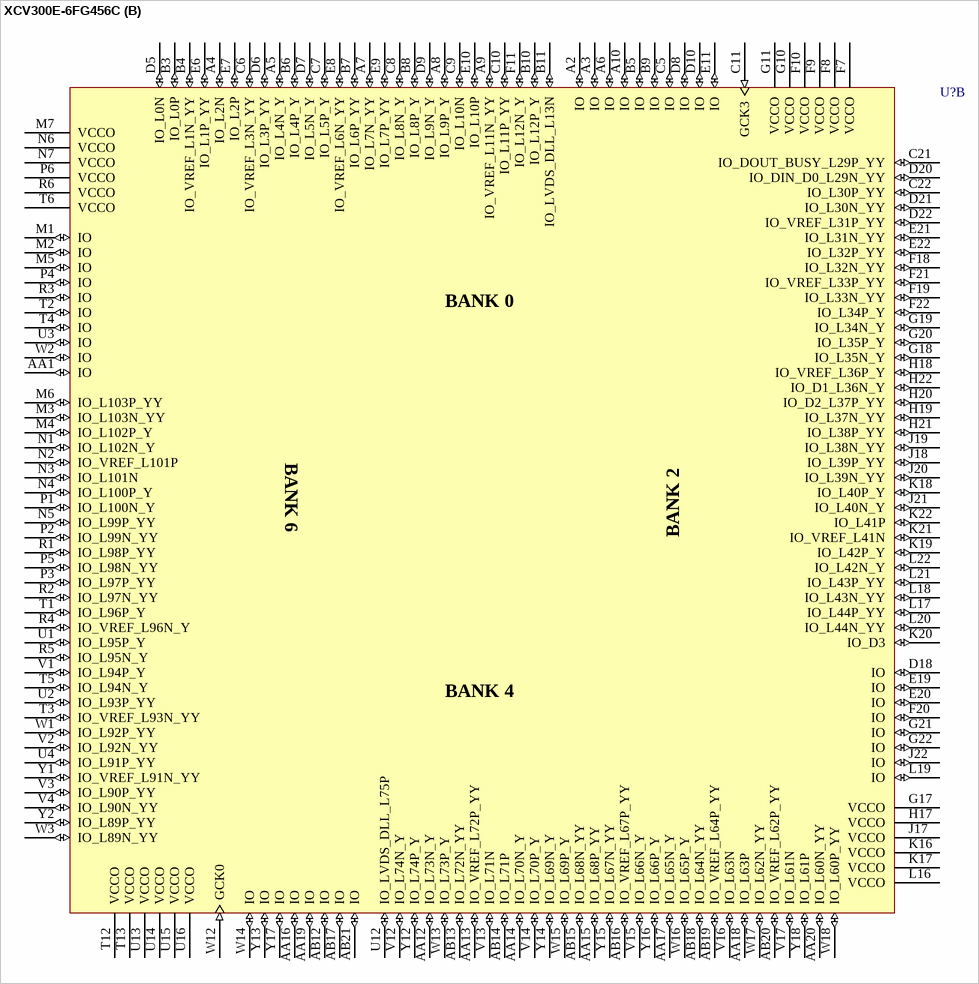
[diagram p87: symbol XCV300E-6FG456C]

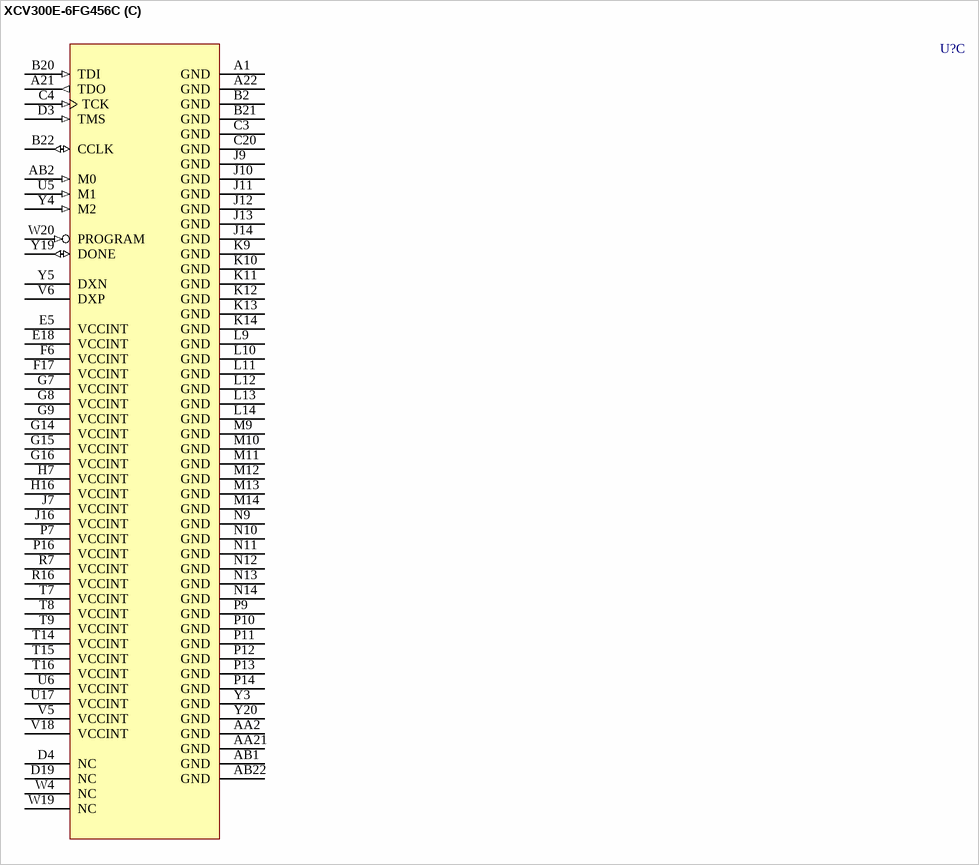
[diagram p88: symbol XCV300E-6FG456C]

## XCV300E-6FG456C
designator U?
Virtex-E 1.8V FPGA, 456-Ball FBGA, Commercial Grade; PackageDocument: ver1.1, Apr-2001; Note: Solder pads are defined by the copper, i.e. non-soldermask defined (NSMD); Published: 19-Sep-2001; LatestRevisionDate: 17-Jul-2002; LatestRevisionNote: Re-released for DXP Platform.; DatasheetDocument: Mar-2003; PackageReference: FG456; Publisher: Altium Limited; Code_JEDEC: MO-151-AAJ-1
footprint FG456 (456-Ball Fine Pitch Ball Grid Array (FG456))
3D model XCV300E-FG456 (456-Ball Fine Pitch Ball Grid Array (FG456))
signal-integrity model XCV300E_FG456 (Virtex-E)
part A pins: A11 GCK2 (in), A12 IO (io), A13 IO_L15P_Y (io), A14 IO (io), A15 IO_L19P_Y (io), A16 IO_L21N_YY (io), A17 IO_L23P_Y (io), A18 IO_VREF_L24P_YY (io), A19 IO_VREF_L26P_YY (io), A20 IO_WRITE_L28N_YY (io), AA3 IO (io), AA4 IO_L87P_YY (io), AA5 IO_VREF_L85N_YY (io), AA6 IO_L84N_Y (io), AA7 IO_L83N_Y (io), AA8 IO_L81N_YY (io), AA9 IO (io), AA10 IO (io), AA11 IO_LVDS_DLL_L75N (io), AA22 IO_L58N_YY (io), AB3 IO_L88N_YY (io), AB4 IO (io), AB5 IO_L85P_YY (io), AB6 IO_L84P_Y (io), AB7 IO (io), AB8 IO (io), AB9 IO_L80P_Y (io), AB10 IO_L78P_YY (io), AB11 IO_L76P_Y (io), B1 IO (io), B12 IO_L15N_Y (io), B13 IO_VREF_L16P_YY (io), B14 IO_L18N_Y (io), B15 IO_L20N_YY (io), B16 IO (io), B17 IO_L24N_YY (io), B18 IO_L26N_YY (io), B19 IO (io), C1 IO_L118P_YY (io), C2 IO (io), C12 IO_L14N_Y (io), C13 IO_L17N_YY (io), C14 IO_L18P_Y (io), C15 IO_L20P_YY (io), C16 IO_L22P_Y (io), C17 IO_L25P_YY (io), C18 IO_L27P_YY (io), C19 IO_CS_L28P_YY (io), D1 IO (io), D2 IO_VREF_L117P_YY (io), D11 IO_LVDS_DLL_L13P (io), D12 IO_L14P_Y (io), D13 IO_L17P_YY (io), D14 IO_L22N_Y (io), D15 IO_L23N_Y (io), D16 IO_L25N_YY (io), D17 IO_L27N_YY (io), E1 IO_L115N_YY (io), E2 IO_VREF_L115P_YY (io), E3 IO_L117N_YY (io), E4 IO (io), E12 IO_L16N_YY (io), E13 IO (io), E14 IO_VREF_L21P_YY (io), E15 IO (io), E16 IO (io), E17 IO (io), F1 IO_L113N_Y (io), F2 IO_L113P_Y (io), F3 IO_L116N_YY (io), F4 IO (io), F5 IO_L118N_YY (io), F12 IO_L19N_Y (io), F13 VCCO (power), F14 VCCO (power), F15 VCCO (power), F16 VCCO (power), G1 IO_L112N_Y (io), G2 IO (io), G3 IO_L114P_YY (io), G4 IO (io), G5 IO_L116P_YY (io), G6 VCCO (power), G12 VCCO (power), G13 VCCO (power), H1 IO_L110P_YY (io), H2 IO_L111N_YY (io), H3 IO_L111P_YY (io), H4 IO_VREF_L112P_Y (io), H5 IO_L114N_YY (io), H6 VCCO (power), J1 IO (io), J2 IO_L109P_YY (io), J3 IO_L109N_YY (io), J4 IO (io), J5 IO_L110N_YY (io), J6 VCCO (power), K1 IO_L108N_YY (io), K2 IO_L106P_Y (io), K3 IO_VREF_L107P_Y (io), K4 IO_L107N_Y (io), K5 IO_L108P_YY (io), K6 VCCO (power), K7 VCCO (power), L1 IO_L105P_YY (io), L2 IO (io), L3 IO_L104N_YY (io), L4 IO_L104P_YY (io), L5 IO_L105N_YY (io), L6 IO_L106N_Y (io), L7 VCCO (power), M16 VCCO (power), M17 IO_L46N_Y (io), M18 IO_L45P_YY (io), M19 IO_L46P_Y (io), M20 IO_L45N_YY (io), M21 IO (io), M22 IO (io), N16 VCCO (power), N17 VCCO (power), N18 IO_L48N_YY (io), N19 IO_L49P_YY (io), N20 IO_L48P_YY (io), N21 IO_VREF_L47N_Y (io), N22 IO_D4_L47P_Y (io), P17 VCCO (power), P18 IO_L51P_YY (io), P19 IO_L50N_YY (io), P20 IO_L50P_YY (io), P21 IO_L49N_YY (io), P22 IO (io), R17 VCCO (power), R18 IO_L53N_Y (io), R19 IO_VREF_L52N_Y (io), R20 IO (io), R21 IO_D5_L51N_YY (io), R22 IO (io), T10 VCCO (power), T11 VCCO (power), T17 VCCO (power), T18 IO_L56N_YY (io), T19 IO (io), T20 IO_L55P_YY (io), T21 IO_L54P_YY (io), T22 IO_D6_L52P_Y (io), U7 VCCO (power), U8 VCCO (power), U9 VCCO (power), U10 VCCO (power), U11 IO (io), U18 IO (io), U19 IO_L57P_YY (io), U20 IO_VREF_L57N_YY (io), U21 IO_VREF_L55N_YY (io), U22 IO_L53P_Y (io), V7 IO_L88P_YY (io), V8 IO (io), V9 IO_L81P_YY (io), V10 IO_L79P_Y (io), V11 IO_L77P_YY (io), V19 IO_INIT_L59N_YY (io), V20 IO (io), V21 IO (io), V22 IO_L54N_YY (io), W5 IO (io), W6 IO_L86N_YY (io), W7 IO_L83P_Y (io), W8 IO_VREF_L82N_YY (io), W9 IO_L80N_Y (io), W10 IO_L78N_YY (io), W11 IO_L76N_Y (io), W21 IO_L58P_YY (io), W22 IO_L56P_YY (io), Y6 IO_VREF_L87N_YY (io), Y7 IO_L86P_YY (io), Y8 IO_L82P_YY (io), Y9 IO_L79N_Y (io), Y10 IO_VREF_L77N_YY (io), Y11 GCK1 (in), Y21 IO_D7_L59P_YY (io), Y22 IO (io)
part B pins: A2 IO (io), A3 IO (io), A4 IO_L2N (io), A5 IO_L4N_Y (io), A6 IO (io), A7 IO_L7N_YY (io), A8 IO_L9P_Y (io), A9 IO_VREF_L11N_YY (io), A10 IO (io), AA1 IO (io), AA12 IO_L73N_Y (io), AA13 IO_VREF_L72P_YY (io), AA14 IO_L70N_Y (io), AA15 IO_L68P_YY (io), AA16 IO (io), AA17 IO_L65N_Y (io), AA18 IO_L63P (io), AA19 IO (io), AA20 IO_L60N_YY (io), AB12 IO (io), AB13 IO_L72N_YY (io), AB14 IO_L71P (io), AB15 IO_L68N_YY (io), AB16 IO_VREF_L67P_YY (io), AB17 IO (io), AB18 IO_L64N_YY (io), AB19 IO_VREF_L64P_YY (io), AB20 IO_VREF_L62P_YY (io), AB21 IO (io), B3 IO_L0P (io), B4 IO_VREF_L1N_YY (io), B5 IO (io), B6 IO_L4P_Y (io), B7 IO_L6P_YY (io), B8 IO_L8P_Y (io), B9 IO (io), B10 IO_L12P_Y (io), B11 IO_LVDS_DLL_L13N (io), C5 IO (io), C6 IO_VREF_L3N_YY (io), C7 IO_L5P_Y (io), C8 IO_L8N_Y (io), C9 IO_L10N (io), C10 IO_L11P_YY (io), C11 GCK3 (in), C21 IO_DOUT_BUSY_L29P_YY (io), C22 IO_L30P_YY (io), D5 IO_L0N (io), D6 IO_L3P_YY (io), D7 IO_L5N_Y (io), D8 IO (io), D9 IO_L9N_Y (io), D10 IO (io), D18 IO (io), D20 IO_DIN_D0_L29N_YY (io), D21 IO_L30N_YY (io), D22 IO_VREF_L31P_YY (io), E6 IO_L1P_YY (io), E7 IO_L2P (io), E8 IO_VREF_L6N_YY (io), E9 IO_L7P_YY (io), E10 IO_L10P (io), E11 IO (io), E19 IO (io), E20 IO (io), E21 IO_L31N_YY (io), E22 IO_L32P_YY (io), F7 VCCO (power), F8 VCCO (power), F9 VCCO (power), F10 VCCO (power), F11 IO_L12N_Y (io), F18 IO_L32N_YY (io), F19 IO_L33N_YY (io), F20 IO (io), F21 IO_VREF_L33P_YY (io), F22 IO_L34P_Y (io), G10 VCCO (power), G11 VCCO (power), G17 VCCO (power), G18 IO_L35N_Y (io), G19 IO_L34N_Y (io), G20 IO_L35P_Y (io), G21 IO (io), G22 IO (io), H17 VCCO (power), H18 IO_VREF_L36P_Y (io), H19 IO_L37N_YY (io), H20 IO_D2_L37P_YY (io), H21 IO_L38P_YY (io), H22 IO_D1_L36N_Y (io), J17 VCCO (power), J18 IO_L39P_YY (io), J19 IO_L38N_YY (io), J20 IO_L39N_YY (io), J21 IO_L40N_Y (io), J22 IO (io), K16 VCCO (power), K17 VCCO (power), K18 IO_L40P_Y (io), K19 IO_L42P_Y (io), K20 IO_D3 (io), K21 IO_VREF_L41N (io), K22 IO_L41P (io), L16 VCCO (power), L17 IO_L44P_YY (io), L18 IO_L43N_YY (io), L19 IO (io), L20 IO_L44N_YY (io), L21 IO_L43P_YY (io), L22 IO_L42N_Y (io), M1 IO (io), M2 IO (io), M3 IO_L103N_YY (io), M4 IO_L102P_Y (io), M5 IO (io), M6 IO_L103P_YY (io), M7 VCCO (power), N1 IO_L102N_Y (io), N2 IO_VREF_L101P (io), N3 IO_L101N (io), N4 IO_L100P_Y (io), N5 IO_L99P_YY (io), N6 VCCO (power), N7 VCCO (power), P1 IO_L100N_Y (io), P2 IO_L99N_YY (io), P3 IO_L97P_YY (io), P4 IO (io), P5 IO_L98N_YY (io), P6 VCCO (power), R1 IO_L98P_YY (io), R2 IO_L97N_YY (io), R3 IO (io), R4 IO_VREF_L96N_Y (io), R5 IO_L95N_Y (io), R6 VCCO (power), T1 IO_L96P_Y (io), T2 IO (io), T3 IO_VREF_L93N_YY (io), T4 IO (io), T5 IO_L94N_Y (io), T6 VCCO (power), T12 VCCO (power), T13 VCCO (power), U1 IO_L95P_Y (io), U2 IO_L93P_YY (io), U3 IO (io), U4 IO_L91P_YY (io), U12 IO_LVDS_DLL_L75P (io), U13 VCCO (power), U14 VCCO (power), U15 VCCO (power), U16 VCCO (power), V1 IO_L94P_Y (io), V2 IO_L92N_YY (io), V3 IO_L90P_YY (io), V4 IO_L90N_YY (io), V12 IO_L74N_Y (io), V13 IO_L71N (io), V14 IO_L70P_Y (io), V15 IO_L66N_Y (io), V16 IO_L63N (io), V17 IO_L61N (io), W1 IO_L92P_YY (io), W2 IO (io), W3 IO_L89N_YY (io), W12 GCK0 (in), W13 IO_L73P_Y (io), W14 IO (io), W15 IO_L69P_Y (io), W16 IO_L65P_Y (io), W17 IO_L62N_YY (io), W18 IO_L60P_YY (io), Y1 IO_VREF_L91N_YY (io), Y2 IO_L89P_YY (io), Y12 IO_L74P_Y (io), Y13 IO (io), Y14 IO_L69N_Y (io), Y15 IO_L67N_YY (io), Y16 IO_L66P_Y (io), Y17 IO (io), Y18 IO_L61P (io)
part C pins: A1 GND (power), A21 TDO (out), A22 GND (power), AA2 GND (power), AA21 GND (power), AB1 GND (power), AB2 M0 (in), AB22 GND (power), B2 GND (power), B20 TDI (in), B21 GND (power), B22 CCLK (io), C3 GND (power), C4 TCK (in), C20 GND (power), D3 TMS (in), D4 NC, D19 NC, E5 VCCINT (power), E18 VCCINT (power), F6 VCCINT (power), F17 VCCINT (power), G7 VCCINT (power), G8 VCCINT (power), G9 VCCINT (power), G14 VCCINT (power), G15 VCCINT (power), G16 VCCINT (power), H7 VCCINT (power), H16 VCCINT (power), J7 VCCINT (power), J9 GND (power), J10 GND (power), J11 GND (power), J12 GND (power), J13 GND (power), J14 GND (power), J16 VCCINT (power), K9 GND (power), K10 GND (power), K11 GND (power), K12 GND (power), K13 GND (power), K14 GND (power), L9 GND (power), L10 GND (power), L11 GND (power), L12 GND (power), L13 GND (power), L14 GND (power), M9 GND (power), M10 GND (power), M11 GND (power), M12 GND (power), M13 GND (power), M14 GND (power), N9 GND (power), N10 GND (power), N11 GND (power), N12 GND (power), N13 GND (power), N14 GND (power), P7 VCCINT (power), P9 GND (power), P10 GND (power), P11 GND (power), P12 GND (power), P13 GND (power), P14 GND (power), P16 VCCINT (power), R7 VCCINT (power), R16 VCCINT (power), T7 VCCINT (power), T8 VCCINT (power), T9 VCCINT (power), T14 VCCINT (power), T15 VCCINT (power), T16 VCCINT (power), U5 M1 (in), U6 VCCINT (power), U17 VCCINT (power), V5 VCCINT (power), V6 DXP, V18 VCCINT (power), W4 NC, W19 NC, W20 PROGRAM (in), Y3 GND (power), Y4 M2 (in), Y5 DXN, Y19 DONE (io), Y20 GND (power)
part A text: BANK 1; BANK 7; BANK 3; BANK 5
part B text: BANK 0; BANK 6; BANK 2; BANK 4

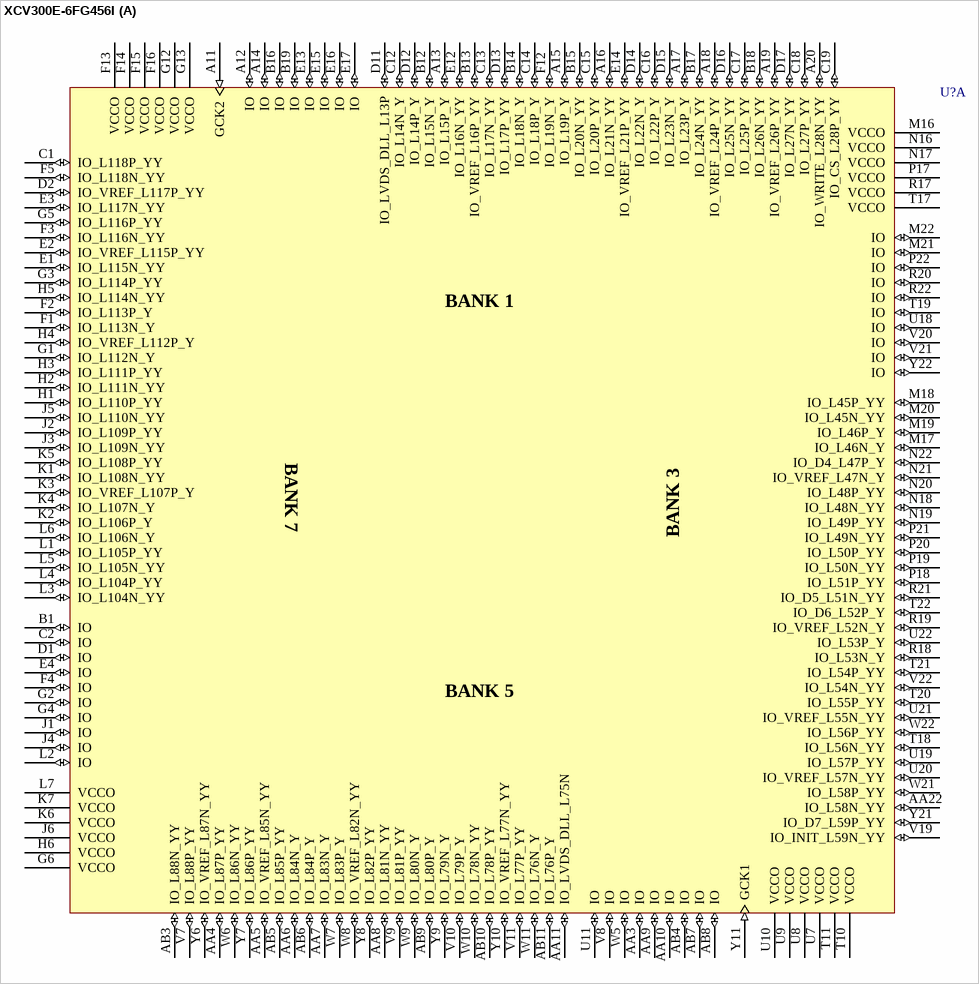
[diagram p89: symbol XCV300E-6FG456I]

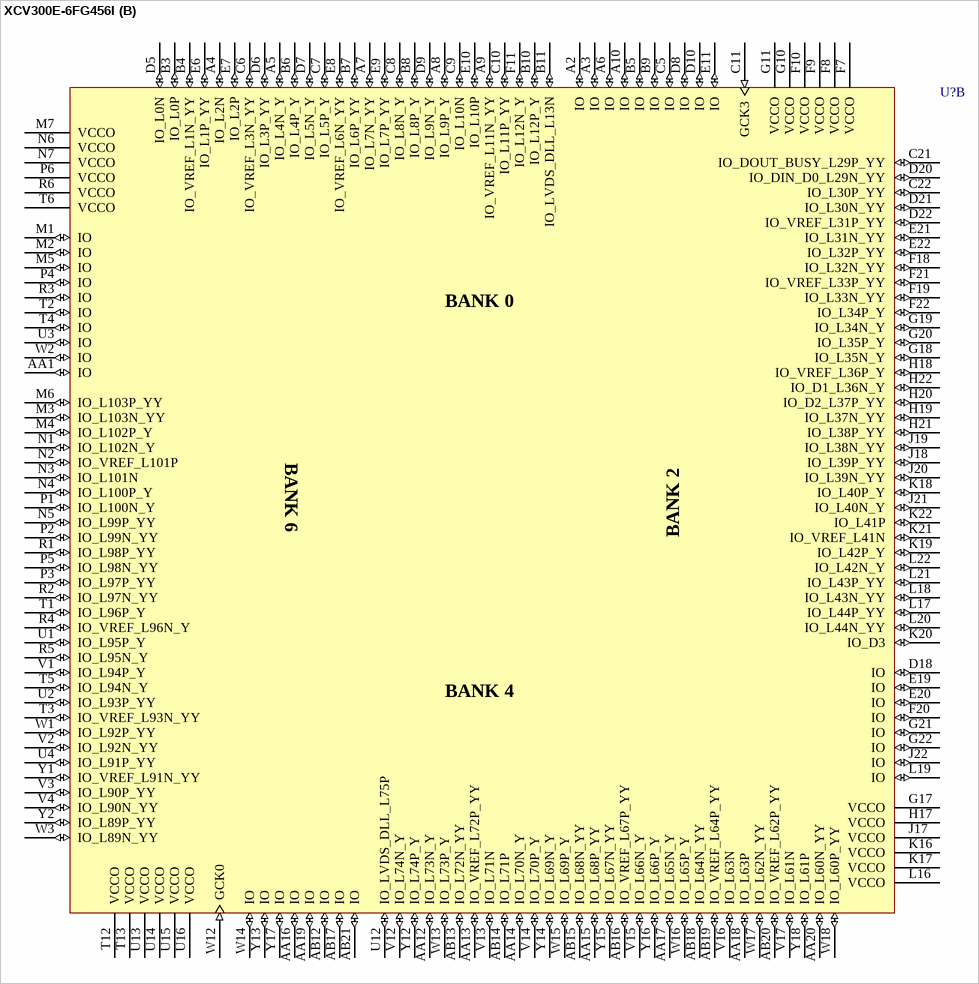
[diagram p90: symbol XCV300E-6FG456I]

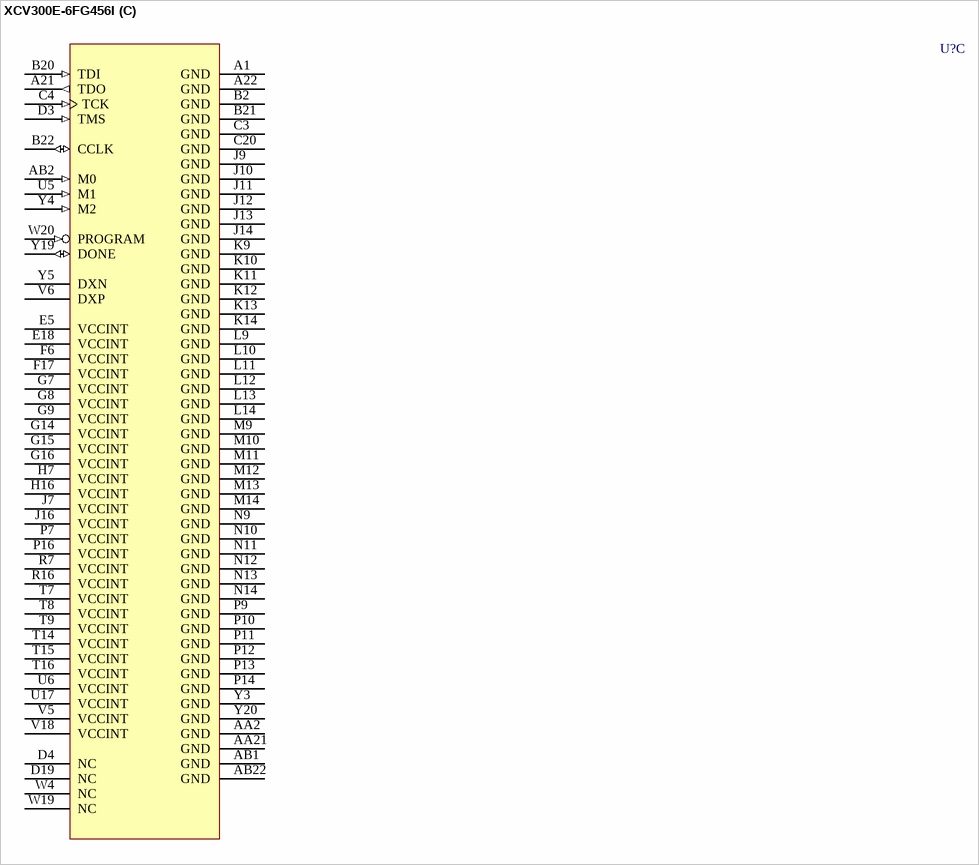
[diagram p91: symbol XCV300E-6FG456I]

## XCV300E-6FG456I
designator U?
Virtex-E 1.8V FPGA, 456-Ball FBGA, Industrial Grade; PackageDocument: ver1.1, Apr-2001; Note: Solder pads are defined by the copper, i.e. non-soldermask defined (NSMD); Published: 19-Sep-2001; LatestRevisionDate: 17-Jul-2002; LatestRevisionNote: Re-released for DXP Platform.; DatasheetDocument: Mar-2003; PackageReference: FG456; Publisher: Altium Limited; Code_JEDEC: MO-151-AAJ-1
footprint FG456 (456-Ball Fine Pitch Ball Grid Array (FG456))
3D model XCV300E-FG456 (456-Ball Fine Pitch Ball Grid Array (FG456))
signal-integrity model XCV300E_FG456 (Virtex-E)
part A pins: A11 GCK2 (in), A12 IO (io), A13 IO_L15P_Y (io), A14 IO (io), A15 IO_L19P_Y (io), A16 IO_L21N_YY (io), A17 IO_L23P_Y (io), A18 IO_VREF_L24P_YY (io), A19 IO_VREF_L26P_YY (io), A20 IO_WRITE_L28N_YY (io), AA3 IO (io), AA4 IO_L87P_YY (io), AA5 IO_VREF_L85N_YY (io), AA6 IO_L84N_Y (io), AA7 IO_L83N_Y (io), AA8 IO_L81N_YY (io), AA9 IO (io), AA10 IO (io), AA11 IO_LVDS_DLL_L75N (io), AA22 IO_L58N_YY (io), AB3 IO_L88N_YY (io), AB4 IO (io), AB5 IO_L85P_YY (io), AB6 IO_L84P_Y (io), AB7 IO (io), AB8 IO (io), AB9 IO_L80P_Y (io), AB10 IO_L78P_YY (io), AB11 IO_L76P_Y (io), B1 IO (io), B12 IO_L15N_Y (io), B13 IO_VREF_L16P_YY (io), B14 IO_L18N_Y (io), B15 IO_L20N_YY (io), B16 IO (io), B17 IO_L24N_YY (io), B18 IO_L26N_YY (io), B19 IO (io), C1 IO_L118P_YY (io), C2 IO (io), C12 IO_L14N_Y (io), C13 IO_L17N_YY (io), C14 IO_L18P_Y (io), C15 IO_L20P_YY (io), C16 IO_L22P_Y (io), C17 IO_L25P_YY (io), C18 IO_L27P_YY (io), C19 IO_CS_L28P_YY (io), D1 IO (io), D2 IO_VREF_L117P_YY (io), D11 IO_LVDS_DLL_L13P (io), D12 IO_L14P_Y (io), D13 IO_L17P_YY (io), D14 IO_L22N_Y (io), D15 IO_L23N_Y (io), D16 IO_L25N_YY (io), D17 IO_L27N_YY (io), E1 IO_L115N_YY (io), E2 IO_VREF_L115P_YY (io), E3 IO_L117N_YY (io), E4 IO (io), E12 IO_L16N_YY (io), E13 IO (io), E14 IO_VREF_L21P_YY (io), E15 IO (io), E16 IO (io), E17 IO (io), F1 IO_L113N_Y (io), F2 IO_L113P_Y (io), F3 IO_L116N_YY (io), F4 IO (io), F5 IO_L118N_YY (io), F12 IO_L19N_Y (io), F13 VCCO (power), F14 VCCO (power), F15 VCCO (power), F16 VCCO (power), G1 IO_L112N_Y (io), G2 IO (io), G3 IO_L114P_YY (io), G4 IO (io), G5 IO_L116P_YY (io), G6 VCCO (power), G12 VCCO (power), G13 VCCO (power), H1 IO_L110P_YY (io), H2 IO_L111N_YY (io), H3 IO_L111P_YY (io), H4 IO_VREF_L112P_Y (io), H5 IO_L114N_YY (io), H6 VCCO (power), J1 IO (io), J2 IO_L109P_YY (io), J3 IO_L109N_YY (io), J4 IO (io), J5 IO_L110N_YY (io), J6 VCCO (power), K1 IO_L108N_YY (io), K2 IO_L106P_Y (io), K3 IO_VREF_L107P_Y (io), K4 IO_L107N_Y (io), K5 IO_L108P_YY (io), K6 VCCO (power), K7 VCCO (power), L1 IO_L105P_YY (io), L2 IO (io), L3 IO_L104N_YY (io), L4 IO_L104P_YY (io), L5 IO_L105N_YY (io), L6 IO_L106N_Y (io), L7 VCCO (power), M16 VCCO (power), M17 IO_L46N_Y (io), M18 IO_L45P_YY (io), M19 IO_L46P_Y (io), M20 IO_L45N_YY (io), M21 IO (io), M22 IO (io), N16 VCCO (power), N17 VCCO (power), N18 IO_L48N_YY (io), N19 IO_L49P_YY (io), N20 IO_L48P_YY (io), N21 IO_VREF_L47N_Y (io), N22 IO_D4_L47P_Y (io), P17 VCCO (power), P18 IO_L51P_YY (io), P19 IO_L50N_YY (io), P20 IO_L50P_YY (io), P21 IO_L49N_YY (io), P22 IO (io), R17 VCCO (power), R18 IO_L53N_Y (io), R19 IO_VREF_L52N_Y (io), R20 IO (io), R21 IO_D5_L51N_YY (io), R22 IO (io), T10 VCCO (power), T11 VCCO (power), T17 VCCO (power), T18 IO_L56N_YY (io), T19 IO (io), T20 IO_L55P_YY (io), T21 IO_L54P_YY (io), T22 IO_D6_L52P_Y (io), U7 VCCO (power), U8 VCCO (power), U9 VCCO (power), U10 VCCO (power), U11 IO (io), U18 IO (io), U19 IO_L57P_YY (io), U20 IO_VREF_L57N_YY (io), U21 IO_VREF_L55N_YY (io), U22 IO_L53P_Y (io), V7 IO_L88P_YY (io), V8 IO (io), V9 IO_L81P_YY (io), V10 IO_L79P_Y (io), V11 IO_L77P_YY (io), V19 IO_INIT_L59N_YY (io), V20 IO (io), V21 IO (io), V22 IO_L54N_YY (io), W5 IO (io), W6 IO_L86N_YY (io), W7 IO_L83P_Y (io), W8 IO_VREF_L82N_YY (io), W9 IO_L80N_Y (io), W10 IO_L78N_YY (io), W11 IO_L76N_Y (io), W21 IO_L58P_YY (io), W22 IO_L56P_YY (io), Y6 IO_VREF_L87N_YY (io), Y7 IO_L86P_YY (io), Y8 IO_L82P_YY (io), Y9 IO_L79N_Y (io), Y10 IO_VREF_L77N_YY (io), Y11 GCK1 (in), Y21 IO_D7_L59P_YY (io), Y22 IO (io)
part B pins: A2 IO (io), A3 IO (io), A4 IO_L2N (io), A5 IO_L4N_Y (io), A6 IO (io), A7 IO_L7N_YY (io), A8 IO_L9P_Y (io), A9 IO_VREF_L11N_YY (io), A10 IO (io), AA1 IO (io), AA12 IO_L73N_Y (io), AA13 IO_VREF_L72P_YY (io), AA14 IO_L70N_Y (io), AA15 IO_L68P_YY (io), AA16 IO (io), AA17 IO_L65N_Y (io), AA18 IO_L63P (io), AA19 IO (io), AA20 IO_L60N_YY (io), AB12 IO (io), AB13 IO_L72N_YY (io), AB14 IO_L71P (io), AB15 IO_L68N_YY (io), AB16 IO_VREF_L67P_YY (io), AB17 IO (io), AB18 IO_L64N_YY (io), AB19 IO_VREF_L64P_YY (io), AB20 IO_VREF_L62P_YY (io), AB21 IO (io), B3 IO_L0P (io), B4 IO_VREF_L1N_YY (io), B5 IO (io), B6 IO_L4P_Y (io), B7 IO_L6P_YY (io), B8 IO_L8P_Y (io), B9 IO (io), B10 IO_L12P_Y (io), B11 IO_LVDS_DLL_L13N (io), C5 IO (io), C6 IO_VREF_L3N_YY (io), C7 IO_L5P_Y (io), C8 IO_L8N_Y (io), C9 IO_L10N (io), C10 IO_L11P_YY (io), C11 GCK3 (in), C21 IO_DOUT_BUSY_L29P_YY (io), C22 IO_L30P_YY (io), D5 IO_L0N (io), D6 IO_L3P_YY (io), D7 IO_L5N_Y (io), D8 IO (io), D9 IO_L9N_Y (io), D10 IO (io), D18 IO (io), D20 IO_DIN_D0_L29N_YY (io), D21 IO_L30N_YY (io), D22 IO_VREF_L31P_YY (io), E6 IO_L1P_YY (io), E7 IO_L2P (io), E8 IO_VREF_L6N_YY (io), E9 IO_L7P_YY (io), E10 IO_L10P (io), E11 IO (io), E19 IO (io), E20 IO (io), E21 IO_L31N_YY (io), E22 IO_L32P_YY (io), F7 VCCO (power), F8 VCCO (power), F9 VCCO (power), F10 VCCO (power), F11 IO_L12N_Y (io), F18 IO_L32N_YY (io), F19 IO_L33N_YY (io), F20 IO (io), F21 IO_VREF_L33P_YY (io), F22 IO_L34P_Y (io), G10 VCCO (power), G11 VCCO (power), G17 VCCO (power), G18 IO_L35N_Y (io), G19 IO_L34N_Y (io), G20 IO_L35P_Y (io), G21 IO (io), G22 IO (io), H17 VCCO (power), H18 IO_VREF_L36P_Y (io), H19 IO_L37N_YY (io), H20 IO_D2_L37P_YY (io), H21 IO_L38P_YY (io), H22 IO_D1_L36N_Y (io), J17 VCCO (power), J18 IO_L39P_YY (io), J19 IO_L38N_YY (io), J20 IO_L39N_YY (io), J21 IO_L40N_Y (io), J22 IO (io), K16 VCCO (power), K17 VCCO (power), K18 IO_L40P_Y (io), K19 IO_L42P_Y (io), K20 IO_D3 (io), K21 IO_VREF_L41N (io), K22 IO_L41P (io), L16 VCCO (power), L17 IO_L44P_YY (io), L18 IO_L43N_YY (io), L19 IO (io), L20 IO_L44N_YY (io), L21 IO_L43P_YY (io), L22 IO_L42N_Y (io), M1 IO (io), M2 IO (io), M3 IO_L103N_YY (io), M4 IO_L102P_Y (io), M5 IO (io), M6 IO_L103P_YY (io), M7 VCCO (power), N1 IO_L102N_Y (io), N2 IO_VREF_L101P (io), N3 IO_L101N (io), N4 IO_L100P_Y (io), N5 IO_L99P_YY (io), N6 VCCO (power), N7 VCCO (power), P1 IO_L100N_Y (io), P2 IO_L99N_YY (io), P3 IO_L97P_YY (io), P4 IO (io), P5 IO_L98N_YY (io), P6 VCCO (power), R1 IO_L98P_YY (io), R2 IO_L97N_YY (io), R3 IO (io), R4 IO_VREF_L96N_Y (io), R5 IO_L95N_Y (io), R6 VCCO (power), T1 IO_L96P_Y (io), T2 IO (io), T3 IO_VREF_L93N_YY (io), T4 IO (io), T5 IO_L94N_Y (io), T6 VCCO (power), T12 VCCO (power), T13 VCCO (power), U1 IO_L95P_Y (io), U2 IO_L93P_YY (io), U3 IO (io), U4 IO_L91P_YY (io), U12 IO_LVDS_DLL_L75P (io), U13 VCCO (power), U14 VCCO (power), U15 VCCO (power), U16 VCCO (power), V1 IO_L94P_Y (io), V2 IO_L92N_YY (io), V3 IO_L90P_YY (io), V4 IO_L90N_YY (io), V12 IO_L74N_Y (io), V13 IO_L71N (io), V14 IO_L70P_Y (io), V15 IO_L66N_Y (io), V16 IO_L63N (io), V17 IO_L61N (io), W1 IO_L92P_YY (io), W2 IO (io), W3 IO_L89N_YY (io), W12 GCK0 (in), W13 IO_L73P_Y (io), W14 IO (io), W15 IO_L69P_Y (io), W16 IO_L65P_Y (io), W17 IO_L62N_YY (io), W18 IO_L60P_YY (io), Y1 IO_VREF_L91N_YY (io), Y2 IO_L89P_YY (io), Y12 IO_L74P_Y (io), Y13 IO (io), Y14 IO_L69N_Y (io), Y15 IO_L67N_YY (io), Y16 IO_L66P_Y (io), Y17 IO (io), Y18 IO_L61P (io)
part C pins: A1 GND (power), A21 TDO (out), A22 GND (power), AA2 GND (power), AA21 GND (power), AB1 GND (power), AB2 M0 (in), AB22 GND (power), B2 GND (power), B20 TDI (in), B21 GND (power), B22 CCLK (io), C3 GND (power), C4 TCK (in), C20 GND (power), D3 TMS (in), D4 NC, D19 NC, E5 VCCINT (power), E18 VCCINT (power), F6 VCCINT (power), F17 VCCINT (power), G7 VCCINT (power), G8 VCCINT (power), G9 VCCINT (power), G14 VCCINT (power), G15 VCCINT (power), G16 VCCINT (power), H7 VCCINT (power), H16 VCCINT (power), J7 VCCINT (power), J9 GND (power), J10 GND (power), J11 GND (power), J12 GND (power), J13 GND (power), J14 GND (power), J16 VCCINT (power), K9 GND (power), K10 GND (power), K11 GND (power), K12 GND (power), K13 GND (power), K14 GND (power), L9 GND (power), L10 GND (power), L11 GND (power), L12 GND (power), L13 GND (power), L14 GND (power), M9 GND (power), M10 GND (power), M11 GND (power), M12 GND (power), M13 GND (power), M14 GND (power), N9 GND (power), N10 GND (power), N11 GND (power), N12 GND (power), N13 GND (power), N14 GND (power), P7 VCCINT (power), P9 GND (power), P10 GND (power), P11 GND (power), P12 GND (power), P13 GND (power), P14 GND (power), P16 VCCINT (power), R7 VCCINT (power), R16 VCCINT (power), T7 VCCINT (power), T8 VCCINT (power), T9 VCCINT (power), T14 VCCINT (power), T15 VCCINT (power), T16 VCCINT (power), U5 M1 (in), U6 VCCINT (power), U17 VCCINT (power), V5 VCCINT (power), V6 DXP, V18 VCCINT (power), W4 NC, W19 NC, W20 PROGRAM (in), Y3 GND (power), Y4 M2 (in), Y5 DXN, Y19 DONE (io), Y20 GND (power)
part A text: BANK 1; BANK 7; BANK 3; BANK 5
part B text: BANK 0; BANK 6; BANK 2; BANK 4

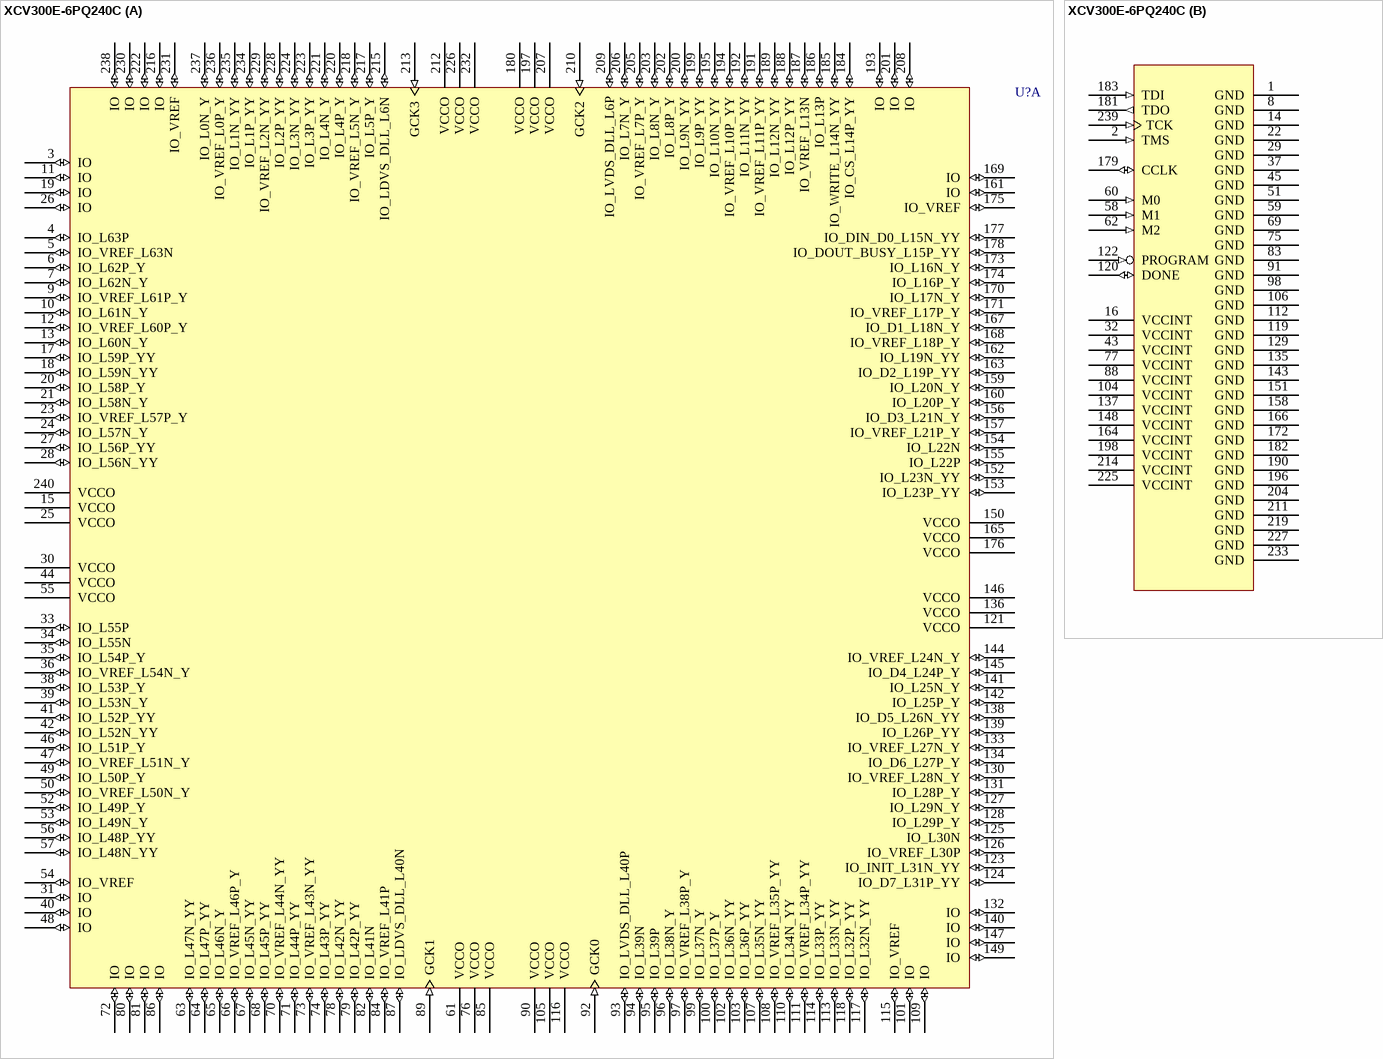
[diagram p92: symbol XCV300E-6PQ240C]